# Altium integrated library Lattice FPGA EC.IntLib: 200 symbols (part 6 of 28)
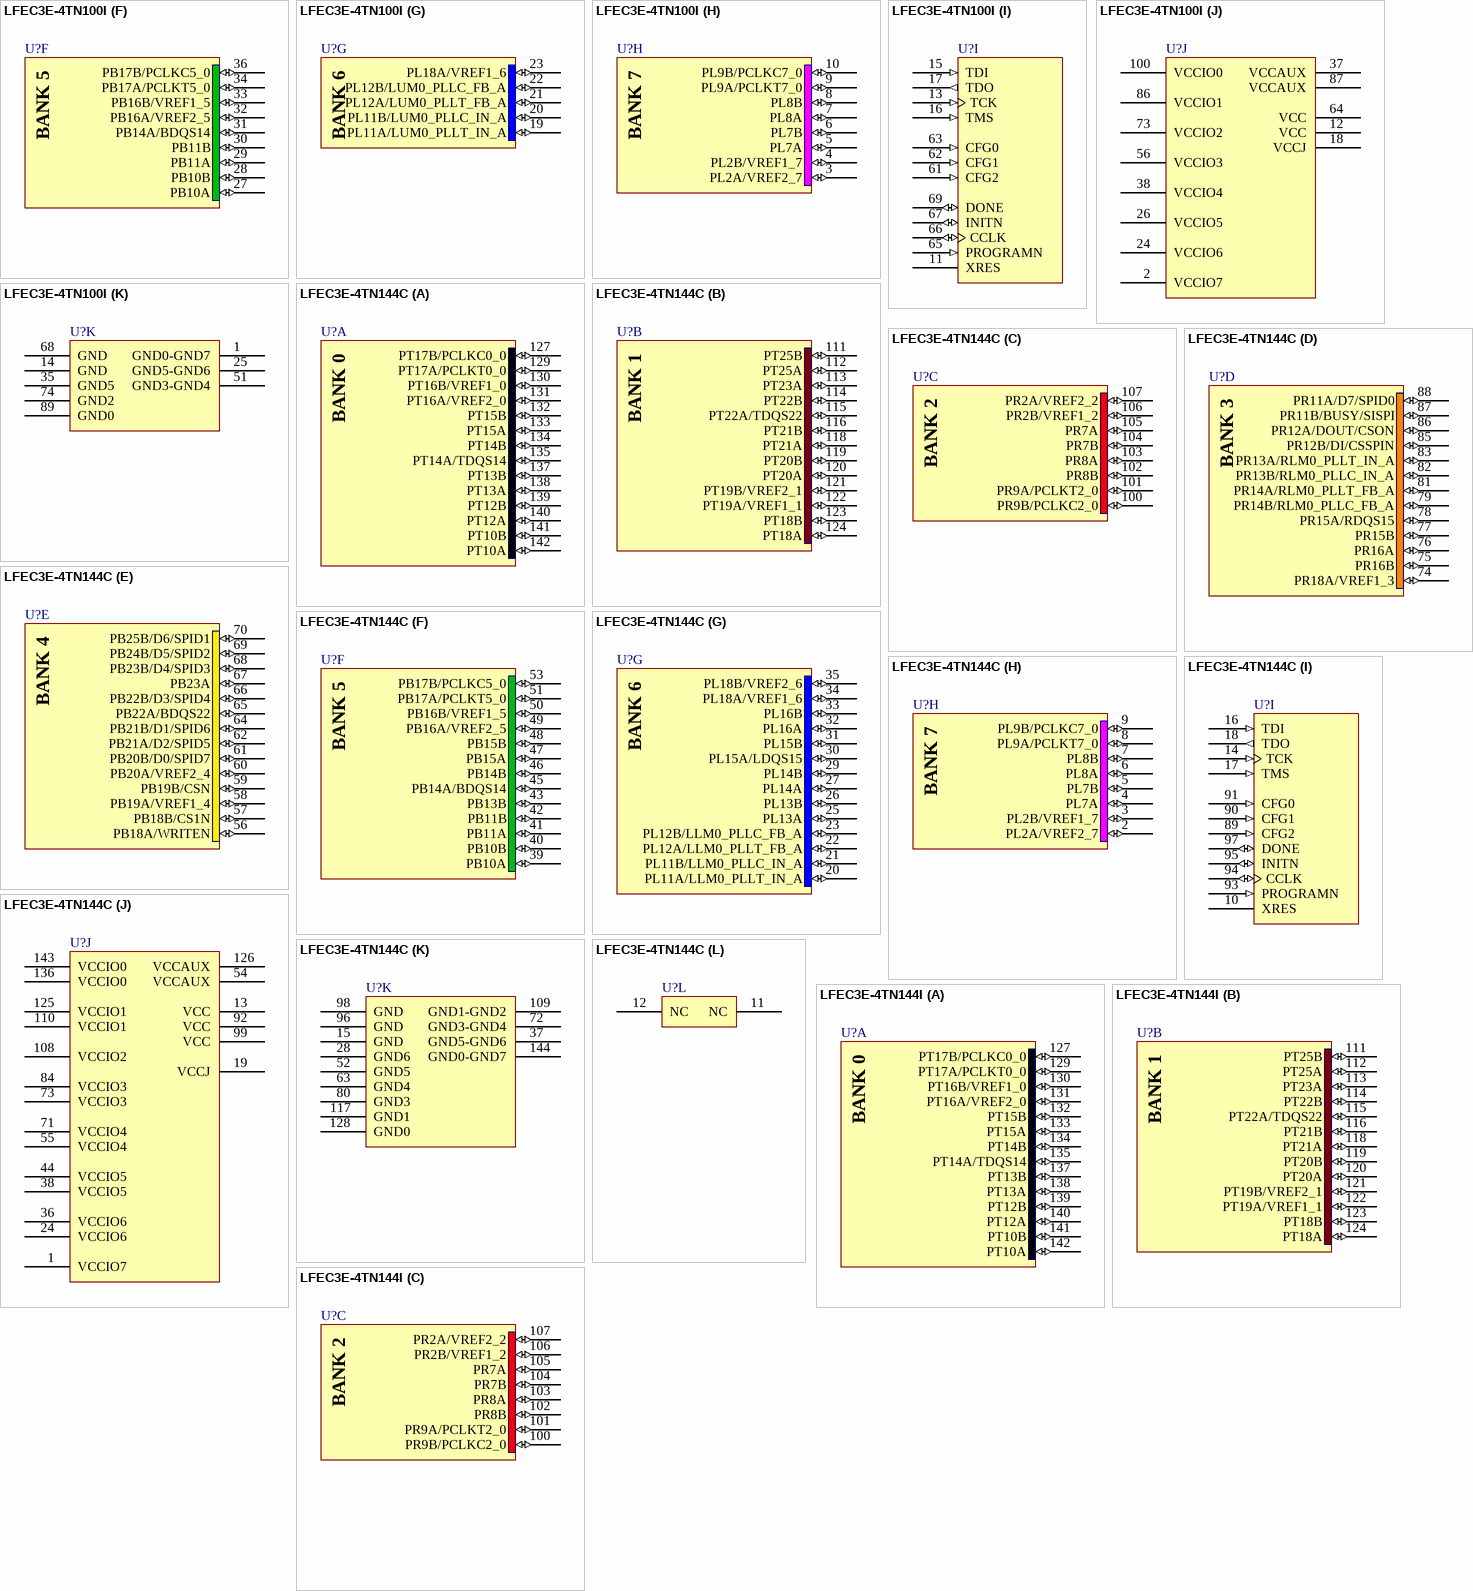
[diagram p235: symbols LFEC3E-4TN100I to LFEC3E-4TN144I]

## LFEC3E-4TN144C
designator U?
EC 1.2V FPGA, 97 I/Os, 2 PLLs, 3.1K LUTs, 144-Pin TQFP, Speed Grade 4, Commercial Grade, Pb-Free; Note: Pins 37, 72, 109 and 144 are double bonded.; DatasheetVersion: ver2.2, Mar-2006; PackageVersion: ver02.8, Jul-2011; PackageReference: TQFP144; PackageDescription: 144-Pin Thin Quad Flat Pack (TQFP144); Code_JEDEC: MS-026-BFB; ComponentLink1Description: Manufacturer URL; ComponentLink1URL: http://www.latticesemi.com/; ComponentLink2Description: Datasheet; ComponentLink2URL: http://www.latticesemi.com/lit/docs/datasheets/fpga/ecp_ec_datasheet.pdf; ComponentLink3Description: Package Specification; ComponentLink3URL: http://www.latticesemi.com/lit/docs/package/pkg.pdf
footprint TQFP144_N (Thin QFP, 144-Leads, Body 20x20mm, Pitch 0.5mm, IPC Medium Density)
footprint TQFP144_L (Thin QFP, 144-Leads, Body 20x20mm, Pitch 0.5mm, IPC High Density)
footprint TQFP144_M (Thin QFP, 144-Leads, Body 20x20mm, Pitch 0.5mm, IPC Low Density)
part A pins: 127 PT17B/PCLKC0_0 (io), 129 PT17A/PCLKT0_0 (io), 130 PT16B/VREF1_0 (io), 131 PT16A/VREF2_0 (io), 132 PT15B (io), 133 PT15A (io), 134 PT14B (io), 135 PT14A/TDQS14 (io), 137 PT13B (io), 138 PT13A (io), 139 PT12B (io), 140 PT12A (io), 141 PT10B (io), 142 PT10A (io)
part B pins: 111 PT25B (io), 112 PT25A (io), 113 PT23A (io), 114 PT22B (io), 115 PT22A/TDQS22 (io), 116 PT21B (io), 118 PT21A (io), 119 PT20B (io), 120 PT20A (io), 121 PT19B/VREF2_1 (io), 122 PT19A/VREF1_1 (io), 123 PT18B (io), 124 PT18A (io)
part C pins: 100 PR9B/PCLKC2_0 (io), 101 PR9A/PCLKT2_0 (io), 102 PR8B (io), 103 PR8A (io), 104 PR7B (io), 105 PR7A (io), 106 PR2B/VREF1_2 (io), 107 PR2A/VREF2_2 (io)
part D pins: 74 PR18A/VREF1_3 (io), 75 PR16B (io), 76 PR16A (io), 77 PR15B (io), 78 PR15A/RDQS15 (io), 79 PR14B/RLM0_PLLC_FB_A (io), 81 PR14A/RLM0_PLLT_FB_A (io), 82 PR13B/RLM0_PLLC_IN_A (io), 83 PR13A/RLM0_PLLT_IN_A (io), 85 PR12B/DI/CSSPIN (io), 86 PR12A/DOUT/CSON (io), 87 PR11B/BUSY/SISPI (io), 88 PR11A/D7/SPID0 (io)
part E pins: 56 PB18A/WRITEN (io), 57 PB18B/CS1N (io), 58 PB19A/VREF1_4 (io), 59 PB19B/CSN (io), 60 PB20A/VREF2_4 (io), 61 PB20B/D0/SPID7 (io), 62 PB21A/D2/SPID5 (io), 64 PB21B/D1/SPID6 (io), 65 PB22A/BDQS22 (io), 66 PB22B/D3/SPID4 (io), 67 PB23A (io), 68 PB23B/D4/SPID3 (io), 69 PB24B/D5/SPID2 (io), 70 PB25B/D6/SPID1 (io)
part F pins: 39 PB10A (io), 40 PB10B (io), 41 PB11A (io), 42 PB11B (io), 43 PB13B (io), 45 PB14A/BDQS14 (io), 46 PB14B (io), 47 PB15A (io), 48 PB15B (io), 49 PB16A/VREF2_5 (io), 50 PB16B/VREF1_5 (io), 51 PB17A/PCLKT5_0 (io), 53 PB17B/PCLKC5_0 (io)
part G pins: 20 PL11A/LLM0_PLLT_IN_A (io), 21 PL11B/LLM0_PLLC_IN_A (io), 22 PL12A/LLM0_PLLT_FB_A (io), 23 PL12B/LLM0_PLLC_FB_A (io), 25 PL13A (io), 26 PL13B (io), 27 PL14A (io), 29 PL14B (io), 30 PL15A/LDQS15 (io), 31 PL15B (io), 32 PL16A (io), 33 PL16B (io), 34 PL18A/VREF1_6 (io), 35 PL18B/VREF2_6 (io)
part H pins: 2 PL2A/VREF2_7 (io), 3 PL2B/VREF1_7 (io), 4 PL7A (io), 5 PL7B (io), 6 PL8A (io), 7 PL8B (io), 8 PL9A/PCLKT7_0 (io), 9 PL9B/PCLKC7_0 (io)
part I pins: 10 XRES, 14 TCK (in), 16 TDI (in), 17 TMS (in), 18 TDO (out), 89 CFG2 (in), 90 CFG1 (in), 91 CFG0 (in), 93 PROGRAMN (in), 94 CCLK (io), 95 INITN (io), 97 DONE (io)
part J pins: 1 VCCIO7 (power), 13 VCC (power), 19 VCCJ (power), 24 VCCIO6 (power), 36 VCCIO6 (power), 38 VCCIO5 (power), 44 VCCIO5 (power), 54 VCCAUX (power), 55 VCCIO4 (power), 71 VCCIO4 (power), 73 VCCIO3 (power), 84 VCCIO3 (power), 92 VCC (power), 99 VCC (power), 108 VCCIO2 (power), 110 VCCIO1 (power), 125 VCCIO1 (power), 126 VCCAUX (power), 136 VCCIO0 (power), 143 VCCIO0 (power)
part K pins: 15 GND (power), 28 GND6 (power), 37 GND5-GND6 (power), 52 GND5 (power), 63 GND4 (power), 72 GND3-GND4 (power), 80 GND3 (power), 96 GND (power), 98 GND (power), 109 GND1-GND2 (power), 117 GND1 (power), 128 GND0 (power), 144 GND0-GND7 (power)
part L pins: 11 NC, 12 NC
part A text: BANK 0
part B text: BANK 1
part C text: BANK 2
part D text: BANK 3
part E text: BANK 4
part F text: BANK 5
part G text: BANK 6
part H text: BANK 7

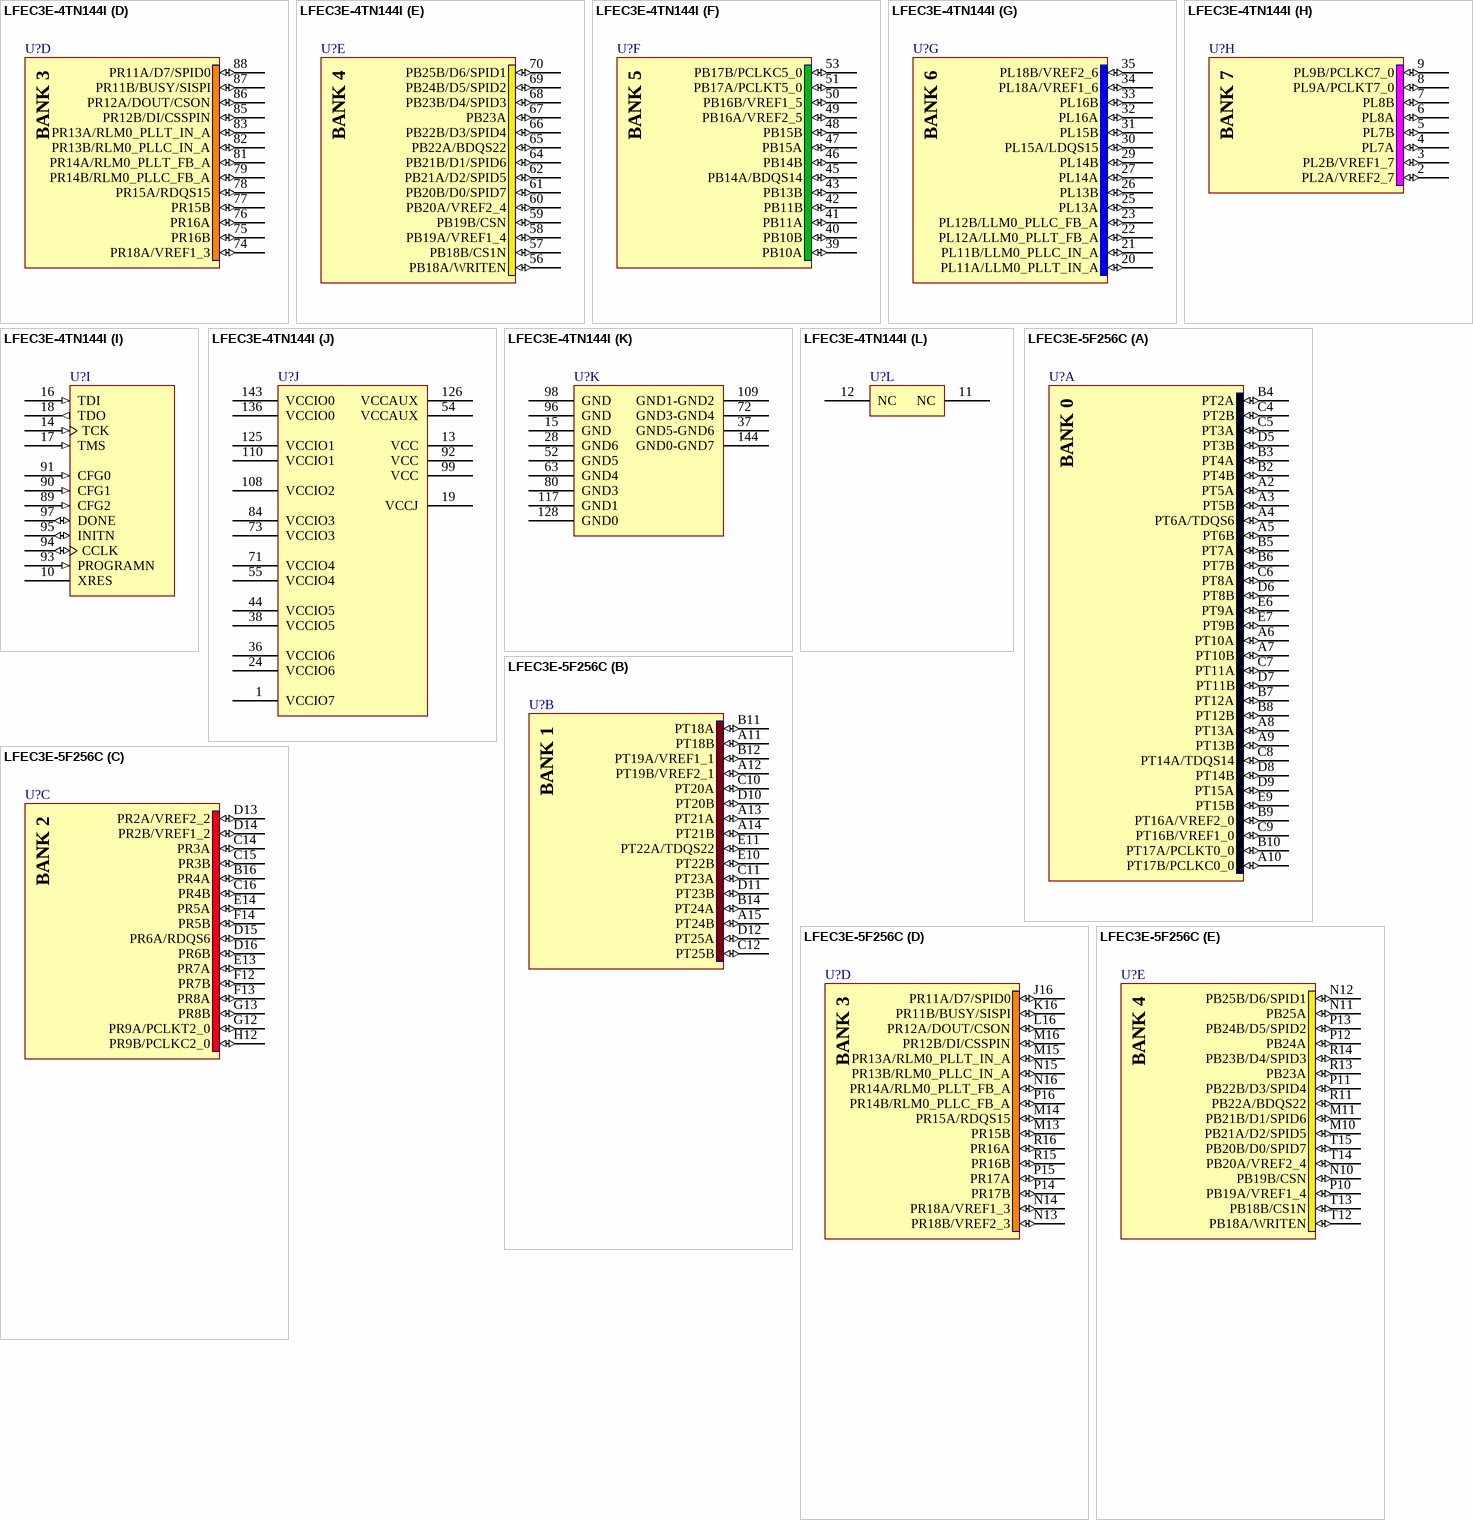
[diagram p41: symbols LFEC3E-4TN144I to LFEC3E-5F256C]

## LFEC3E-4TN144I
designator U?
EC 1.2V FPGA, 97 I/Os, 2 PLLs, 3.1K LUTs, 144-Pin TQFP, Speed Grade 4, Industrial Grade, Pb-Free; Note: Pins 37, 72, 109 and 144 are double bonded.; DatasheetVersion: ver2.2, Mar-2006; PackageVersion: ver02.8, Jul-2011; PackageReference: TQFP144; PackageDescription: 144-Pin Thin Quad Flat Pack (TQFP144); Code_JEDEC: MS-026-BFB; ComponentLink1Description: Manufacturer URL; ComponentLink1URL: http://www.latticesemi.com/; ComponentLink2Description: Datasheet; ComponentLink2URL: http://www.latticesemi.com/lit/docs/datasheets/fpga/ecp_ec_datasheet.pdf; ComponentLink3Description: Package Specification; ComponentLink3URL: http://www.latticesemi.com/lit/docs/package/pkg.pdf
footprint TQFP144_N (Thin QFP, 144-Leads, Body 20x20mm, Pitch 0.5mm, IPC Medium Density)
footprint TQFP144_L (Thin QFP, 144-Leads, Body 20x20mm, Pitch 0.5mm, IPC High Density)
footprint TQFP144_M (Thin QFP, 144-Leads, Body 20x20mm, Pitch 0.5mm, IPC Low Density)
part A pins: 127 PT17B/PCLKC0_0 (io), 129 PT17A/PCLKT0_0 (io), 130 PT16B/VREF1_0 (io), 131 PT16A/VREF2_0 (io), 132 PT15B (io), 133 PT15A (io), 134 PT14B (io), 135 PT14A/TDQS14 (io), 137 PT13B (io), 138 PT13A (io), 139 PT12B (io), 140 PT12A (io), 141 PT10B (io), 142 PT10A (io)
part B pins: 111 PT25B (io), 112 PT25A (io), 113 PT23A (io), 114 PT22B (io), 115 PT22A/TDQS22 (io), 116 PT21B (io), 118 PT21A (io), 119 PT20B (io), 120 PT20A (io), 121 PT19B/VREF2_1 (io), 122 PT19A/VREF1_1 (io), 123 PT18B (io), 124 PT18A (io)
part C pins: 100 PR9B/PCLKC2_0 (io), 101 PR9A/PCLKT2_0 (io), 102 PR8B (io), 103 PR8A (io), 104 PR7B (io), 105 PR7A (io), 106 PR2B/VREF1_2 (io), 107 PR2A/VREF2_2 (io)
part D pins: 74 PR18A/VREF1_3 (io), 75 PR16B (io), 76 PR16A (io), 77 PR15B (io), 78 PR15A/RDQS15 (io), 79 PR14B/RLM0_PLLC_FB_A (io), 81 PR14A/RLM0_PLLT_FB_A (io), 82 PR13B/RLM0_PLLC_IN_A (io), 83 PR13A/RLM0_PLLT_IN_A (io), 85 PR12B/DI/CSSPIN (io), 86 PR12A/DOUT/CSON (io), 87 PR11B/BUSY/SISPI (io), 88 PR11A/D7/SPID0 (io)
part E pins: 56 PB18A/WRITEN (io), 57 PB18B/CS1N (io), 58 PB19A/VREF1_4 (io), 59 PB19B/CSN (io), 60 PB20A/VREF2_4 (io), 61 PB20B/D0/SPID7 (io), 62 PB21A/D2/SPID5 (io), 64 PB21B/D1/SPID6 (io), 65 PB22A/BDQS22 (io), 66 PB22B/D3/SPID4 (io), 67 PB23A (io), 68 PB23B/D4/SPID3 (io), 69 PB24B/D5/SPID2 (io), 70 PB25B/D6/SPID1 (io)
part F pins: 39 PB10A (io), 40 PB10B (io), 41 PB11A (io), 42 PB11B (io), 43 PB13B (io), 45 PB14A/BDQS14 (io), 46 PB14B (io), 47 PB15A (io), 48 PB15B (io), 49 PB16A/VREF2_5 (io), 50 PB16B/VREF1_5 (io), 51 PB17A/PCLKT5_0 (io), 53 PB17B/PCLKC5_0 (io)
part G pins: 20 PL11A/LLM0_PLLT_IN_A (io), 21 PL11B/LLM0_PLLC_IN_A (io), 22 PL12A/LLM0_PLLT_FB_A (io), 23 PL12B/LLM0_PLLC_FB_A (io), 25 PL13A (io), 26 PL13B (io), 27 PL14A (io), 29 PL14B (io), 30 PL15A/LDQS15 (io), 31 PL15B (io), 32 PL16A (io), 33 PL16B (io), 34 PL18A/VREF1_6 (io), 35 PL18B/VREF2_6 (io)
part H pins: 2 PL2A/VREF2_7 (io), 3 PL2B/VREF1_7 (io), 4 PL7A (io), 5 PL7B (io), 6 PL8A (io), 7 PL8B (io), 8 PL9A/PCLKT7_0 (io), 9 PL9B/PCLKC7_0 (io)
part I pins: 10 XRES, 14 TCK (in), 16 TDI (in), 17 TMS (in), 18 TDO (out), 89 CFG2 (in), 90 CFG1 (in), 91 CFG0 (in), 93 PROGRAMN (in), 94 CCLK (io), 95 INITN (io), 97 DONE (io)
part J pins: 1 VCCIO7 (power), 13 VCC (power), 19 VCCJ (power), 24 VCCIO6 (power), 36 VCCIO6 (power), 38 VCCIO5 (power), 44 VCCIO5 (power), 54 VCCAUX (power), 55 VCCIO4 (power), 71 VCCIO4 (power), 73 VCCIO3 (power), 84 VCCIO3 (power), 92 VCC (power), 99 VCC (power), 108 VCCIO2 (power), 110 VCCIO1 (power), 125 VCCIO1 (power), 126 VCCAUX (power), 136 VCCIO0 (power), 143 VCCIO0 (power)
part K pins: 15 GND (power), 28 GND6 (power), 37 GND5-GND6 (power), 52 GND5 (power), 63 GND4 (power), 72 GND3-GND4 (power), 80 GND3 (power), 96 GND (power), 98 GND (power), 109 GND1-GND2 (power), 117 GND1 (power), 128 GND0 (power), 144 GND0-GND7 (power)
part L pins: 11 NC, 12 NC
part A text: BANK 0
part B text: BANK 1
part C text: BANK 2
part D text: BANK 3
part E text: BANK 4
part F text: BANK 5
part G text: BANK 6
part H text: BANK 7

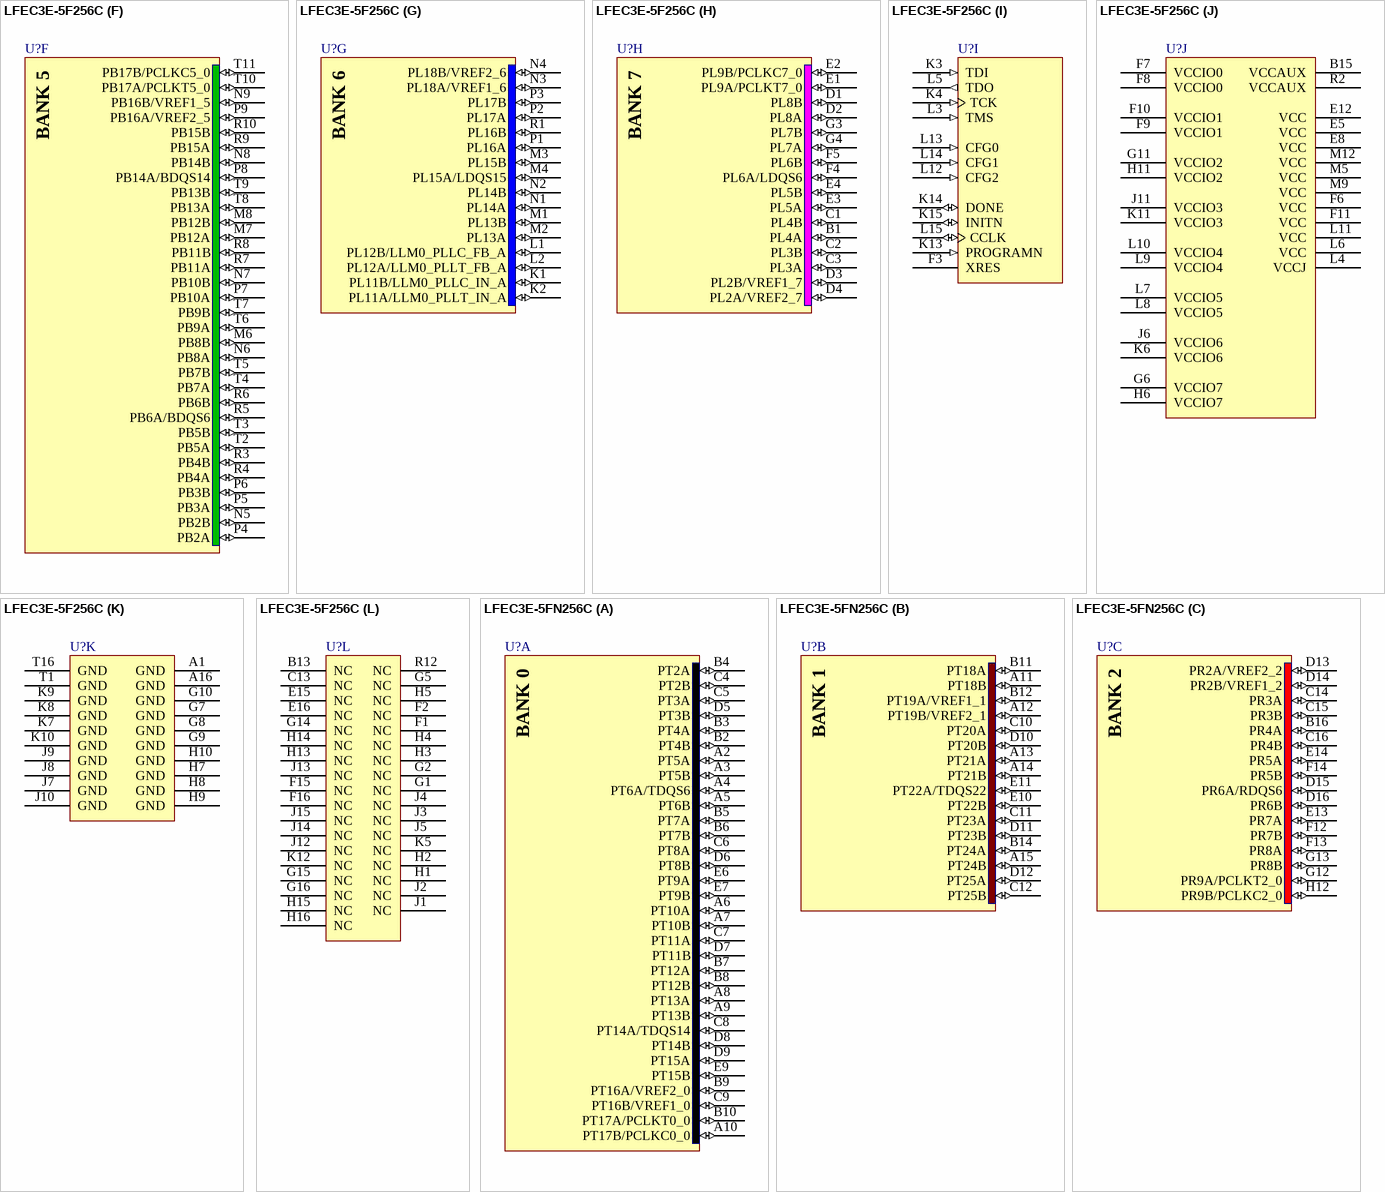
[diagram p42: symbols LFEC3E-5F256C to LFEC3E-5FN256C]

## LFEC3E-5F256C
designator U?
EC 1.2V FPGA, 160 I/Os, 2 PLLs, 3.1K LUTs, 256-Pin fpBGA, Speed Grade 5, Commercial Grade; DatasheetVersion: ver2.2, Mar-2006; PackageVersion: ver01.8, Dec-2008; PackageReference: fpBGA256; PackageDescription: 256-Ball Fine Pitch Ball Grid Array (fpBGA256); Code_IPC: BGA100P16X16-256; ComponentLink1Description: Manufacturer URL; ComponentLink1URL: http://www.latticesemi.com/; ComponentLink2Description: Datasheet; ComponentLink2URL: http://www.latticesemi.com/lit/docs/datasheets/fpga/ecp_ec_datasheet.pdf; ComponentLink3Description: Package Specification; ComponentLink3URL: http://www.latticesemi.com/lit/docs/package/pkg.pdf
footprint fpBGA256 (BGA, 256-Leads, Body 17x17mm, Pitch 1mm)
part A pins: A2 PT5A (io), A3 PT5B (io), A4 PT6A/TDQS6 (io), A5 PT6B (io), A6 PT10A (io), A7 PT10B (io), A8 PT13A (io), A9 PT13B (io), A10 PT17B/PCLKC0_0 (io), B2 PT4B (io), B3 PT4A (io), B4 PT2A (io), B5 PT7A (io), B6 PT7B (io), B7 PT12A (io), B8 PT12B (io), B9 PT16A/VREF2_0 (io), B10 PT17A/PCLKT0_0 (io), C4 PT2B (io), C5 PT3A (io), C6 PT8A (io), C7 PT11A (io), C8 PT14A/TDQS14 (io), C9 PT16B/VREF1_0 (io), D5 PT3B (io), D6 PT8B (io), D7 PT11B (io), D8 PT14B (io), D9 PT15A (io), E6 PT9A (io), E7 PT9B (io), E9 PT15B (io)
part B pins: A11 PT18B (io), A12 PT19B/VREF2_1 (io), A13 PT21A (io), A14 PT21B (io), A15 PT24B (io), B11 PT18A (io), B12 PT19A/VREF1_1 (io), B14 PT24A (io), C10 PT20A (io), C11 PT23A (io), C12 PT25B (io), D10 PT20B (io), D11 PT23B (io), D12 PT25A (io), E10 PT22B (io), E11 PT22A/TDQS22 (io)
part C pins: B16 PR4A (io), C14 PR3A (io), C15 PR3B (io), C16 PR4B (io), D13 PR2A/VREF2_2 (io), D14 PR2B/VREF1_2 (io), D15 PR6A/RDQS6 (io), D16 PR6B (io), E13 PR7A (io), E14 PR5A (io), F12 PR7B (io), F13 PR8A (io), F14 PR5B (io), G12 PR9A/PCLKT2_0 (io), G13 PR8B (io), H12 PR9B/PCLKC2_0 (io)
part D pins: J16 PR11A/D7/SPID0 (io), K16 PR11B/BUSY/SISPI (io), L16 PR12A/DOUT/CSON (io), M13 PR15B (io), M14 PR15A/RDQS15 (io), M15 PR13A/RLM0_PLLT_IN_A (io), M16 PR12B/DI/CSSPIN (io), N13 PR18B/VREF2_3 (io), N14 PR18A/VREF1_3 (io), N15 PR13B/RLM0_PLLC_IN_A (io), N16 PR14A/RLM0_PLLT_FB_A (io), P14 PR17B (io), P15 PR17A (io), P16 PR14B/RLM0_PLLC_FB_A (io), R15 PR16B (io), R16 PR16A (io)
part E pins: M10 PB21A/D2/SPID5 (io), M11 PB21B/D1/SPID6 (io), N10 PB19B/CSN (io), N11 PB25A (io), N12 PB25B/D6/SPID1 (io), P10 PB19A/VREF1_4 (io), P11 PB22B/D3/SPID4 (io), P12 PB24A (io), P13 PB24B/D5/SPID2 (io), R11 PB22A/BDQS22 (io), R13 PB23A (io), R14 PB23B/D4/SPID3 (io), T12 PB18A/WRITEN (io), T13 PB18B/CS1N (io), T14 PB20A/VREF2_4 (io), T15 PB20B/D0/SPID7 (io)
part F pins: M6 PB8B (io), M7 PB12A (io), M8 PB12B (io), N5 PB2B (io), N6 PB8A (io), N7 PB10B (io), N8 PB14B (io), N9 PB16B/VREF1_5 (io), P4 PB2A (io), P5 PB3A (io), P6 PB3B (io), P7 PB10A (io), P8 PB14A/BDQS14 (io), P9 PB16A/VREF2_5 (io), R3 PB4B (io), R4 PB4A (io), R5 PB6A/BDQS6 (io), R6 PB6B (io), R7 PB11A (io), R8 PB11B (io), R9 PB15A (io), R10 PB15B (io), T2 PB5A (io), T3 PB5B (io), T4 PB7A (io), T5 PB7B (io), T6 PB9A (io), T7 PB9B (io), T8 PB13A (io), T9 PB13B (io), T10 PB17A/PCLKT5_0 (io), T11 PB17B/PCLKC5_0 (io)
part G pins: K1 PL11B/LLM0_PLLC_IN_A (io), K2 PL11A/LLM0_PLLT_IN_A (io), L1 PL12B/LLM0_PLLC_FB_A (io), L2 PL12A/LLM0_PLLT_FB_A (io), M1 PL13B (io), M2 PL13A (io), M3 PL15B (io), M4 PL15A/LDQS15 (io), N1 PL14A (io), N2 PL14B (io), N3 PL18A/VREF1_6 (io), N4 PL18B/VREF2_6 (io), P1 PL16A (io), P2 PL17A (io), P3 PL17B (io), R1 PL16B (io)
part H pins: B1 PL4A (io), C1 PL4B (io), C2 PL3B (io), C3 PL3A (io), D1 PL8B (io), D2 PL8A (io), D3 PL2B/VREF1_7 (io), D4 PL2A/VREF2_7 (io), E1 PL9A/PCLKT7_0 (io), E2 PL9B/PCLKC7_0 (io), E3 PL5A (io), E4 PL5B (io), F4 PL6A/LDQS6 (io), F5 PL6B (io), G3 PL7B (io), G4 PL7A (io)
part I pins: F3 XRES, K3 TDI (in), K4 TCK (in), K13 PROGRAMN (in), K14 DONE (io), K15 INITN (io), L3 TMS (in), L5 TDO (out), L12 CFG2 (in), L13 CFG0 (in), L14 CFG1 (in), L15 CCLK (io)
part J pins: B15 VCCAUX (power), E5 VCC (power), E8 VCC (power), E12 VCC (power), F6 VCC (power), F7 VCCIO0 (power), F8 VCCIO0 (power), F9 VCCIO1 (power), F10 VCCIO1 (power), F11 VCC (power), G6 VCCIO7 (power), G11 VCCIO2 (power), H6 VCCIO7 (power), H11 VCCIO2 (power), J6 VCCIO6 (power), J11 VCCIO3 (power), K6 VCCIO6 (power), K11 VCCIO3 (power), L4 VCCJ (power), L6 VCC (power), L7 VCCIO5 (power), L8 VCCIO5 (power), L9 VCCIO4 (power), L10 VCCIO4 (power), L11 VCC (power), M5 VCC (power), M9 VCC (power), M12 VCC (power), R2 VCCAUX (power)
part K pins: A1 GND (power), A16 GND (power), G7 GND (power), G8 GND (power), G9 GND (power), G10 GND (power), H7 GND (power), H8 GND (power), H9 GND (power), H10 GND (power), J7 GND (power), J8 GND (power), J9 GND (power), J10 GND (power), K7 GND (power), K8 GND (power), K9 GND (power), K10 GND (power), T1 GND (power), T16 GND (power)
part L pins: B13 NC, C13 NC, E15 NC, E16 NC, F1 NC, F2 NC, F15 NC, F16 NC, G1 NC, G2 NC, G5 NC, G14 NC, G15 NC, G16 NC, H1 NC, H2 NC, H3 NC, H4 NC, H5 NC, H13 NC, H14 NC, H15 NC, H16 NC, J1 NC, J2 NC, J3 NC, J4 NC, J5 NC, J12 NC, J13 NC, J14 NC, J15 NC, K5 NC, K12 NC, R12 NC
part A text: BANK 0
part B text: BANK 1
part C text: BANK 2
part D text: BANK 3
part E text: BANK 4
part F text: BANK 5
part G text: BANK 6
part H text: BANK 7

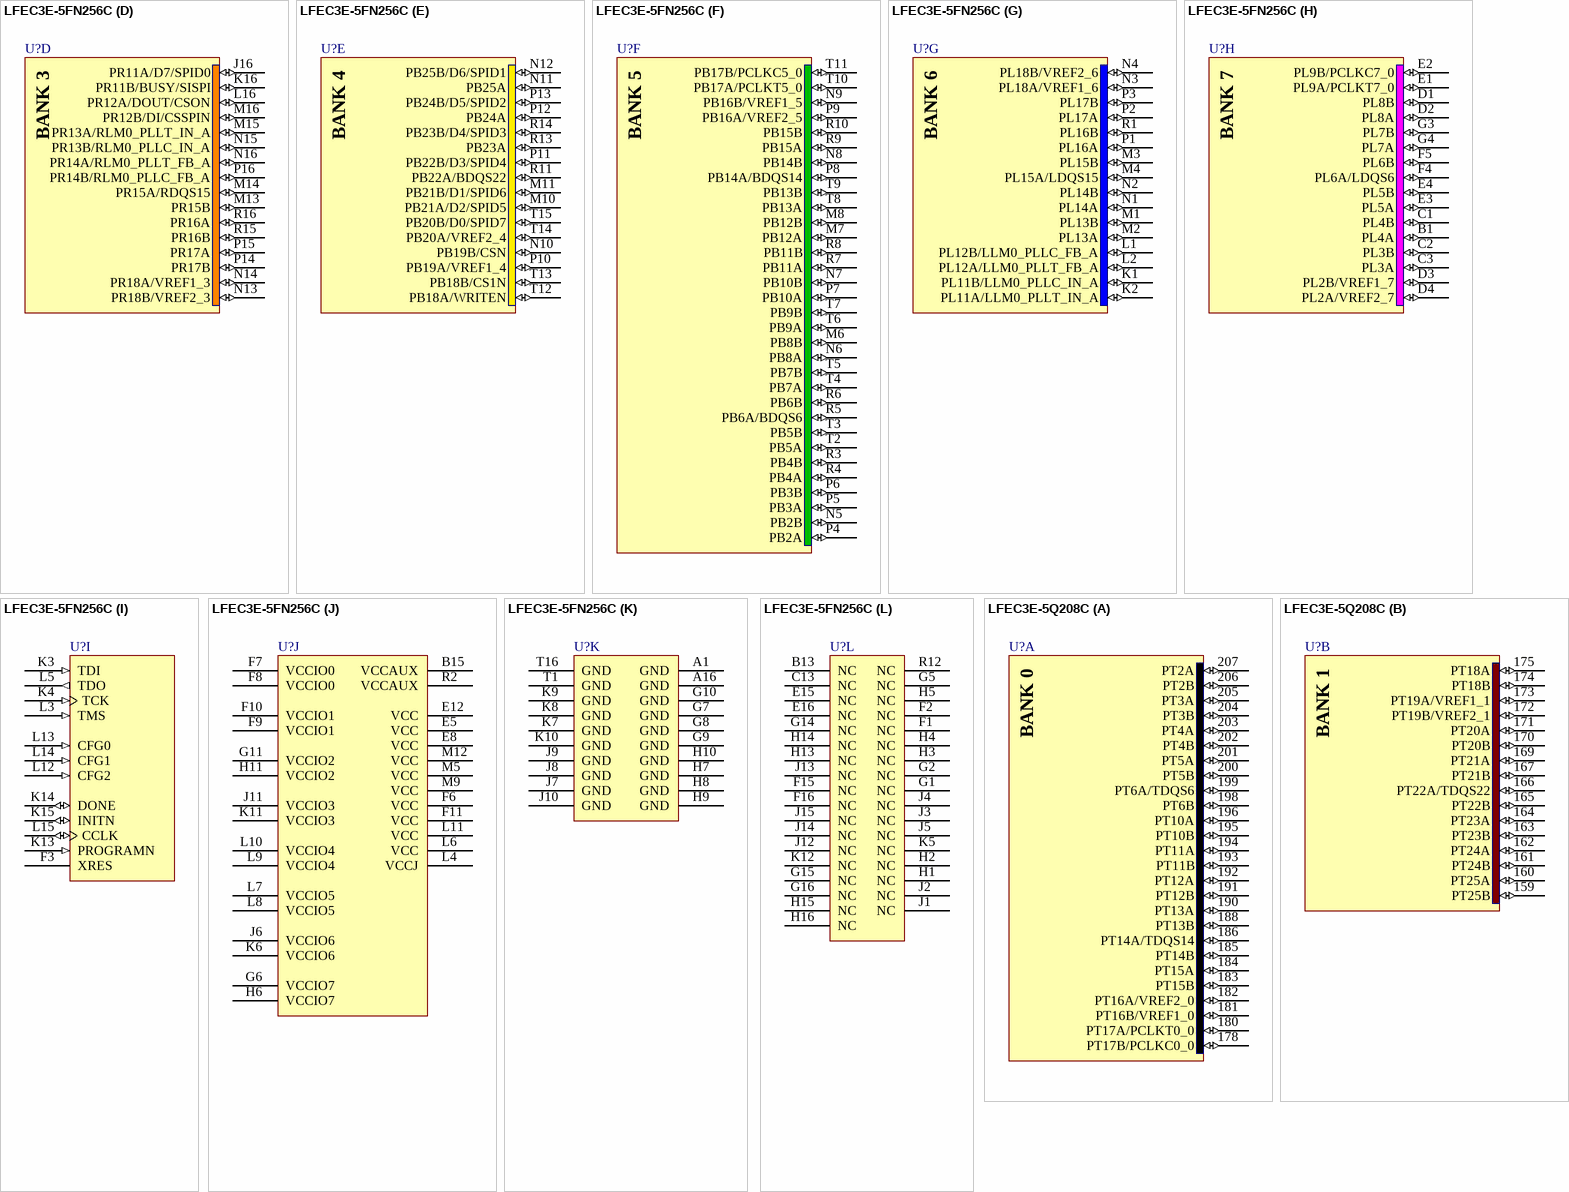
[diagram p43: symbols LFEC3E-5FN256C to LFEC3E-5Q208C]

## LFEC3E-5FN256C
designator U?
EC 1.2V FPGA, 160 I/Os, 2 PLLs, 3.1K LUTs, 256-Pin fpBGA, Speed Grade 5, Commercial Grade, Pb-Free; DatasheetVersion: ver2.2, Mar-2006; PackageVersion: ver01.8, Dec-2008; PackageReference: fpBGA256; PackageDescription: 256-Ball Fine Pitch Ball Grid Array (fpBGA256); Code_IPC: BGA100P16X16-256; ComponentLink1Description: Manufacturer URL; ComponentLink1URL: http://www.latticesemi.com/; ComponentLink2Description: Datasheet; ComponentLink2URL: http://www.latticesemi.com/lit/docs/datasheets/fpga/ecp_ec_datasheet.pdf; ComponentLink3Description: Package Specification; ComponentLink3URL: http://www.latticesemi.com/lit/docs/package/pkg.pdf
footprint fpBGA256 (BGA, 256-Leads, Body 17x17mm, Pitch 1mm)
part A pins: A2 PT5A (io), A3 PT5B (io), A4 PT6A/TDQS6 (io), A5 PT6B (io), A6 PT10A (io), A7 PT10B (io), A8 PT13A (io), A9 PT13B (io), A10 PT17B/PCLKC0_0 (io), B2 PT4B (io), B3 PT4A (io), B4 PT2A (io), B5 PT7A (io), B6 PT7B (io), B7 PT12A (io), B8 PT12B (io), B9 PT16A/VREF2_0 (io), B10 PT17A/PCLKT0_0 (io), C4 PT2B (io), C5 PT3A (io), C6 PT8A (io), C7 PT11A (io), C8 PT14A/TDQS14 (io), C9 PT16B/VREF1_0 (io), D5 PT3B (io), D6 PT8B (io), D7 PT11B (io), D8 PT14B (io), D9 PT15A (io), E6 PT9A (io), E7 PT9B (io), E9 PT15B (io)
part B pins: A11 PT18B (io), A12 PT19B/VREF2_1 (io), A13 PT21A (io), A14 PT21B (io), A15 PT24B (io), B11 PT18A (io), B12 PT19A/VREF1_1 (io), B14 PT24A (io), C10 PT20A (io), C11 PT23A (io), C12 PT25B (io), D10 PT20B (io), D11 PT23B (io), D12 PT25A (io), E10 PT22B (io), E11 PT22A/TDQS22 (io)
part C pins: B16 PR4A (io), C14 PR3A (io), C15 PR3B (io), C16 PR4B (io), D13 PR2A/VREF2_2 (io), D14 PR2B/VREF1_2 (io), D15 PR6A/RDQS6 (io), D16 PR6B (io), E13 PR7A (io), E14 PR5A (io), F12 PR7B (io), F13 PR8A (io), F14 PR5B (io), G12 PR9A/PCLKT2_0 (io), G13 PR8B (io), H12 PR9B/PCLKC2_0 (io)
part D pins: J16 PR11A/D7/SPID0 (io), K16 PR11B/BUSY/SISPI (io), L16 PR12A/DOUT/CSON (io), M13 PR15B (io), M14 PR15A/RDQS15 (io), M15 PR13A/RLM0_PLLT_IN_A (io), M16 PR12B/DI/CSSPIN (io), N13 PR18B/VREF2_3 (io), N14 PR18A/VREF1_3 (io), N15 PR13B/RLM0_PLLC_IN_A (io), N16 PR14A/RLM0_PLLT_FB_A (io), P14 PR17B (io), P15 PR17A (io), P16 PR14B/RLM0_PLLC_FB_A (io), R15 PR16B (io), R16 PR16A (io)
part E pins: M10 PB21A/D2/SPID5 (io), M11 PB21B/D1/SPID6 (io), N10 PB19B/CSN (io), N11 PB25A (io), N12 PB25B/D6/SPID1 (io), P10 PB19A/VREF1_4 (io), P11 PB22B/D3/SPID4 (io), P12 PB24A (io), P13 PB24B/D5/SPID2 (io), R11 PB22A/BDQS22 (io), R13 PB23A (io), R14 PB23B/D4/SPID3 (io), T12 PB18A/WRITEN (io), T13 PB18B/CS1N (io), T14 PB20A/VREF2_4 (io), T15 PB20B/D0/SPID7 (io)
part F pins: M6 PB8B (io), M7 PB12A (io), M8 PB12B (io), N5 PB2B (io), N6 PB8A (io), N7 PB10B (io), N8 PB14B (io), N9 PB16B/VREF1_5 (io), P4 PB2A (io), P5 PB3A (io), P6 PB3B (io), P7 PB10A (io), P8 PB14A/BDQS14 (io), P9 PB16A/VREF2_5 (io), R3 PB4B (io), R4 PB4A (io), R5 PB6A/BDQS6 (io), R6 PB6B (io), R7 PB11A (io), R8 PB11B (io), R9 PB15A (io), R10 PB15B (io), T2 PB5A (io), T3 PB5B (io), T4 PB7A (io), T5 PB7B (io), T6 PB9A (io), T7 PB9B (io), T8 PB13A (io), T9 PB13B (io), T10 PB17A/PCLKT5_0 (io), T11 PB17B/PCLKC5_0 (io)
part G pins: K1 PL11B/LLM0_PLLC_IN_A (io), K2 PL11A/LLM0_PLLT_IN_A (io), L1 PL12B/LLM0_PLLC_FB_A (io), L2 PL12A/LLM0_PLLT_FB_A (io), M1 PL13B (io), M2 PL13A (io), M3 PL15B (io), M4 PL15A/LDQS15 (io), N1 PL14A (io), N2 PL14B (io), N3 PL18A/VREF1_6 (io), N4 PL18B/VREF2_6 (io), P1 PL16A (io), P2 PL17A (io), P3 PL17B (io), R1 PL16B (io)
part H pins: B1 PL4A (io), C1 PL4B (io), C2 PL3B (io), C3 PL3A (io), D1 PL8B (io), D2 PL8A (io), D3 PL2B/VREF1_7 (io), D4 PL2A/VREF2_7 (io), E1 PL9A/PCLKT7_0 (io), E2 PL9B/PCLKC7_0 (io), E3 PL5A (io), E4 PL5B (io), F4 PL6A/LDQS6 (io), F5 PL6B (io), G3 PL7B (io), G4 PL7A (io)
part I pins: F3 XRES, K3 TDI (in), K4 TCK (in), K13 PROGRAMN (in), K14 DONE (io), K15 INITN (io), L3 TMS (in), L5 TDO (out), L12 CFG2 (in), L13 CFG0 (in), L14 CFG1 (in), L15 CCLK (io)
part J pins: B15 VCCAUX (power), E5 VCC (power), E8 VCC (power), E12 VCC (power), F6 VCC (power), F7 VCCIO0 (power), F8 VCCIO0 (power), F9 VCCIO1 (power), F10 VCCIO1 (power), F11 VCC (power), G6 VCCIO7 (power), G11 VCCIO2 (power), H6 VCCIO7 (power), H11 VCCIO2 (power), J6 VCCIO6 (power), J11 VCCIO3 (power), K6 VCCIO6 (power), K11 VCCIO3 (power), L4 VCCJ (power), L6 VCC (power), L7 VCCIO5 (power), L8 VCCIO5 (power), L9 VCCIO4 (power), L10 VCCIO4 (power), L11 VCC (power), M5 VCC (power), M9 VCC (power), M12 VCC (power), R2 VCCAUX (power)
part K pins: A1 GND (power), A16 GND (power), G7 GND (power), G8 GND (power), G9 GND (power), G10 GND (power), H7 GND (power), H8 GND (power), H9 GND (power), H10 GND (power), J7 GND (power), J8 GND (power), J9 GND (power), J10 GND (power), K7 GND (power), K8 GND (power), K9 GND (power), K10 GND (power), T1 GND (power), T16 GND (power)
part L pins: B13 NC, C13 NC, E15 NC, E16 NC, F1 NC, F2 NC, F15 NC, F16 NC, G1 NC, G2 NC, G5 NC, G14 NC, G15 NC, G16 NC, H1 NC, H2 NC, H3 NC, H4 NC, H5 NC, H13 NC, H14 NC, H15 NC, H16 NC, J1 NC, J2 NC, J3 NC, J4 NC, J5 NC, J12 NC, J13 NC, J14 NC, J15 NC, K5 NC, K12 NC, R12 NC
part A text: BANK 0
part B text: BANK 1
part C text: BANK 2
part D text: BANK 3
part E text: BANK 4
part F text: BANK 5
part G text: BANK 6
part H text: BANK 7

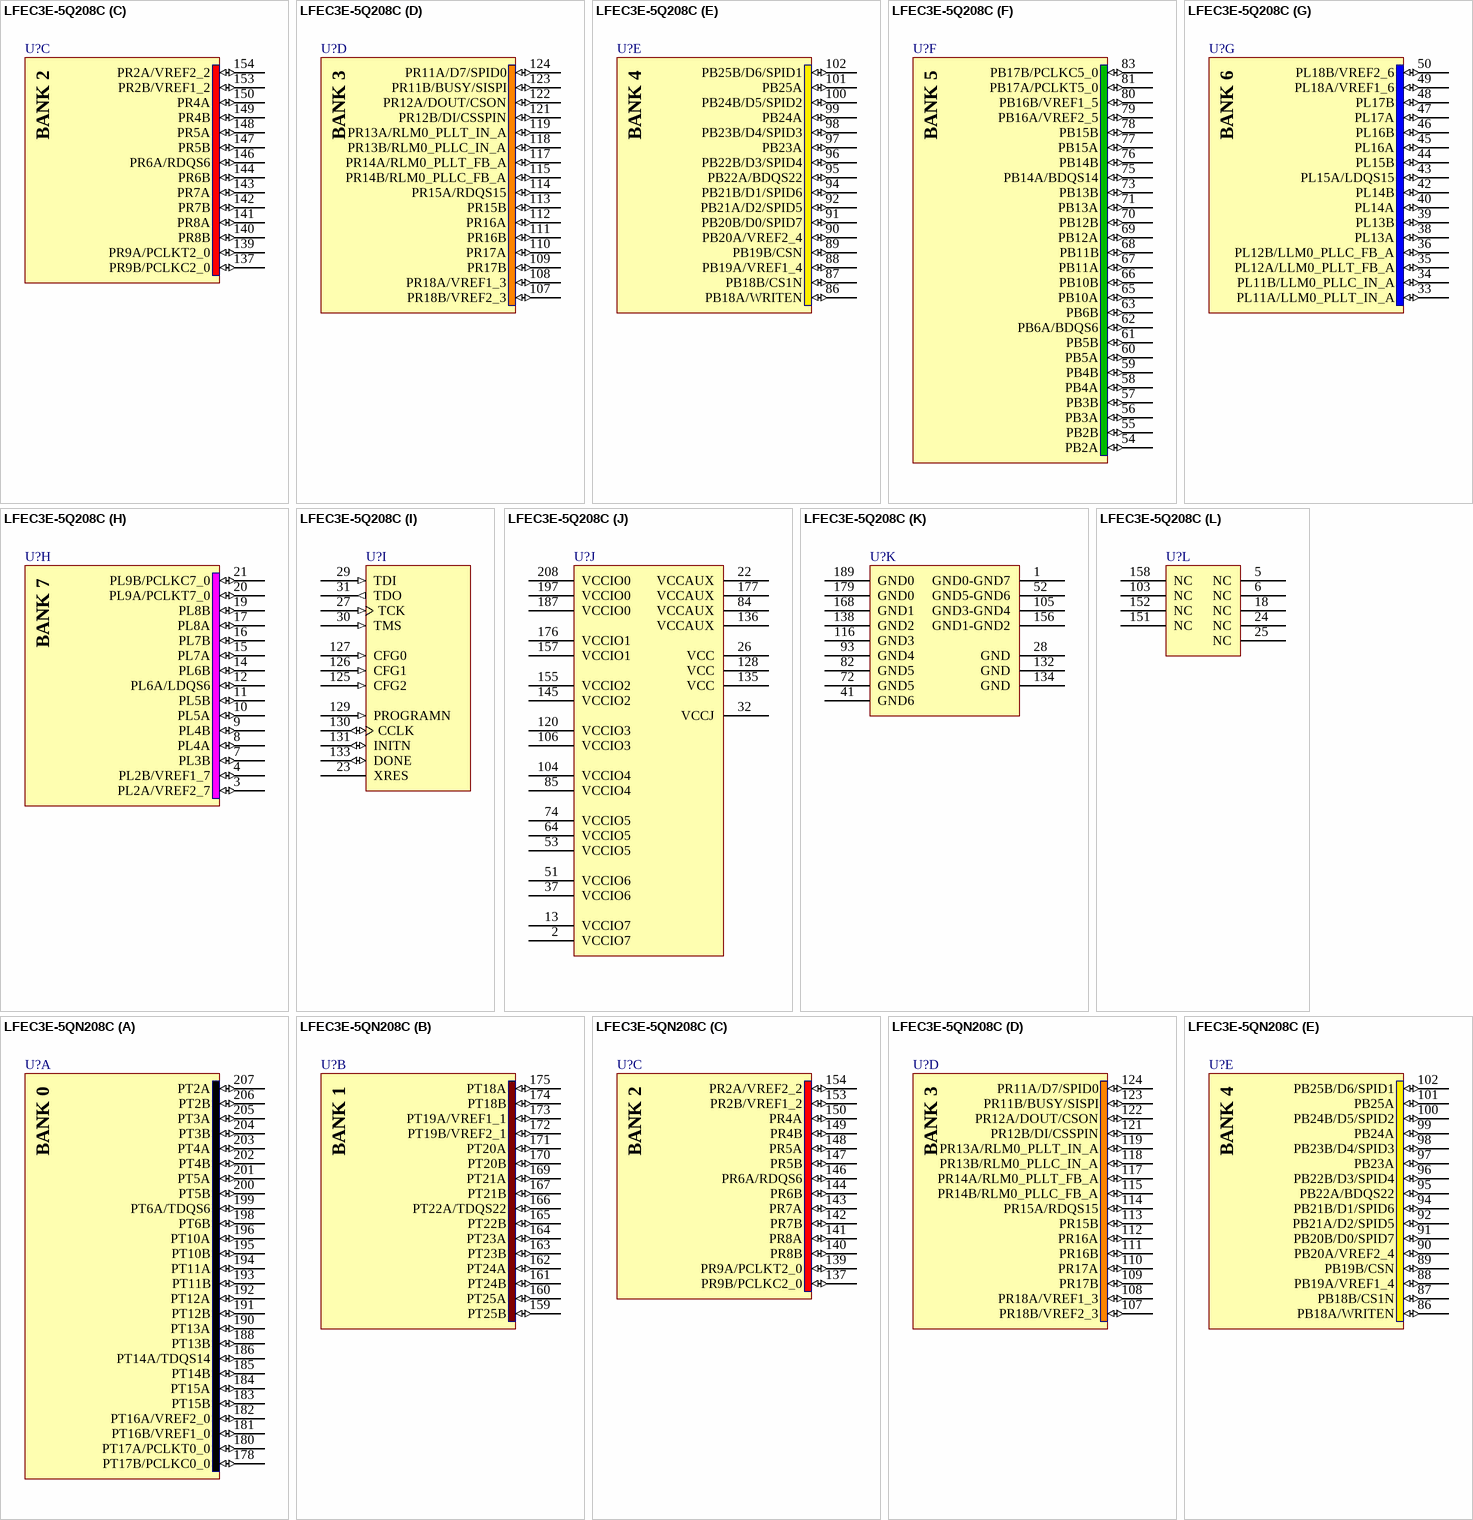
[diagram p44: symbols LFEC3E-5Q208C to LFEC3E-5QN208C]

## LFEC3E-5Q208C
designator U?
EC 1.2V FPGA, 145 I/Os, 2 PLLs, 3.1K LUTs, 208-Pin PQFP, Speed Grade 5, Commercial Grade; Note: Pins 1, 52, 105 and 156 are double bonded.; DatasheetVersion: ver2.2, Mar-2006; PackageVersion: ver01.8, Dec-2008; PackageReference: PQFP208; PackageDescription: 208-Pin Plastic Quad Flat Pack (PQFP208); Code_JEDEC: MO-143-FAI; ComponentLink1Description: Manufacturer URL; ComponentLink1URL: http://www.latticesemi.com/; ComponentLink2Description: Datasheet; ComponentLink2URL: http://www.latticesemi.com/lit/docs/datasheets/fpga/ecp_ec_datasheet.pdf; ComponentLink3Description: Package Specification; ComponentLink3URL: http://www.latticesemi.com/lit/docs/package/pkg.pdf
footprint PQFP208_N (Shrink QFP, 208-Leads, Body 28x28mm, Pitch 0.5mm, IPC Medium Density)
footprint PQFP208_L (Shrink QFP, 208-Leads, Body 28x28mm, Pitch 0.5mm, IPC High Density)
footprint PQFP208_M (Shrink QFP, 208-Leads, Body 28x28mm, Pitch 0.5mm, IPC Low Density)
part A pins: 178 PT17B/PCLKC0_0 (io), 180 PT17A/PCLKT0_0 (io), 181 PT16B/VREF1_0 (io), 182 PT16A/VREF2_0 (io), 183 PT15B (io), 184 PT15A (io), 185 PT14B (io), 186 PT14A/TDQS14 (io), 188 PT13B (io), 190 PT13A (io), 191 PT12B (io), 192 PT12A (io), 193 PT11B (io), 194 PT11A (io), 195 PT10B (io), 196 PT10A (io), 198 PT6B (io), 199 PT6A/TDQS6 (io), 200 PT5B (io), 201 PT5A (io), 202 PT4B (io), 203 PT4A (io), 204 PT3B (io), 205 PT3A (io), 206 PT2B (io), 207 PT2A (io)
part B pins: 159 PT25B (io), 160 PT25A (io), 161 PT24B (io), 162 PT24A (io), 163 PT23B (io), 164 PT23A (io), 165 PT22B (io), 166 PT22A/TDQS22 (io), 167 PT21B (io), 169 PT21A (io), 170 PT20B (io), 171 PT20A (io), 172 PT19B/VREF2_1 (io), 173 PT19A/VREF1_1 (io), 174 PT18B (io), 175 PT18A (io)
part C pins: 137 PR9B/PCLKC2_0 (io), 139 PR9A/PCLKT2_0 (io), 140 PR8B (io), 141 PR8A (io), 142 PR7B (io), 143 PR7A (io), 144 PR6B (io), 146 PR6A/RDQS6 (io), 147 PR5B (io), 148 PR5A (io), 149 PR4B (io), 150 PR4A (io), 153 PR2B/VREF1_2 (io), 154 PR2A/VREF2_2 (io)
part D pins: 107 PR18B/VREF2_3 (io), 108 PR18A/VREF1_3 (io), 109 PR17B (io), 110 PR17A (io), 111 PR16B (io), 112 PR16A (io), 113 PR15B (io), 114 PR15A/RDQS15 (io), 115 PR14B/RLM0_PLLC_FB_A (io), 117 PR14A/RLM0_PLLT_FB_A (io), 118 PR13B/RLM0_PLLC_IN_A (io), 119 PR13A/RLM0_PLLT_IN_A (io), 121 PR12B/DI/CSSPIN (io), 122 PR12A/DOUT/CSON (io), 123 PR11B/BUSY/SISPI (io), 124 PR11A/D7/SPID0 (io)
part E pins: 86 PB18A/WRITEN (io), 87 PB18B/CS1N (io), 88 PB19A/VREF1_4 (io), 89 PB19B/CSN (io), 90 PB20A/VREF2_4 (io), 91 PB20B/D0/SPID7 (io), 92 PB21A/D2/SPID5 (io), 94 PB21B/D1/SPID6 (io), 95 PB22A/BDQS22 (io), 96 PB22B/D3/SPID4 (io), 97 PB23A (io), 98 PB23B/D4/SPID3 (io), 99 PB24A (io), 100 PB24B/D5/SPID2 (io), 101 PB25A (io), 102 PB25B/D6/SPID1 (io)
part F pins: 54 PB2A (io), 55 PB2B (io), 56 PB3A (io), 57 PB3B (io), 58 PB4A (io), 59 PB4B (io), 60 PB5A (io), 61 PB5B (io), 62 PB6A/BDQS6 (io), 63 PB6B (io), 65 PB10A (io), 66 PB10B (io), 67 PB11A (io), 68 PB11B (io), 69 PB12A (io), 70 PB12B (io), 71 PB13A (io), 73 PB13B (io), 75 PB14A/BDQS14 (io), 76 PB14B (io), 77 PB15A (io), 78 PB15B (io), 79 PB16A/VREF2_5 (io), 80 PB16B/VREF1_5 (io), 81 PB17A/PCLKT5_0 (io), 83 PB17B/PCLKC5_0 (io)
part G pins: 33 PL11A/LLM0_PLLT_IN_A (io), 34 PL11B/LLM0_PLLC_IN_A (io), 35 PL12A/LLM0_PLLT_FB_A (io), 36 PL12B/LLM0_PLLC_FB_A (io), 38 PL13A (io), 39 PL13B (io), 40 PL14A (io), 42 PL14B (io), 43 PL15A/LDQS15 (io), 44 PL15B (io), 45 PL16A (io), 46 PL16B (io), 47 PL17A (io), 48 PL17B (io), 49 PL18A/VREF1_6 (io), 50 PL18B/VREF2_6 (io)
part H pins: 3 PL2A/VREF2_7 (io), 4 PL2B/VREF1_7 (io), 7 PL3B (io), 8 PL4A (io), 9 PL4B (io), 10 PL5A (io), 11 PL5B (io), 12 PL6A/LDQS6 (io), 14 PL6B (io), 15 PL7A (io), 16 PL7B (io), 17 PL8A (io), 19 PL8B (io), 20 PL9A/PCLKT7_0 (io), 21 PL9B/PCLKC7_0 (io)
part I pins: 23 XRES, 27 TCK (in), 29 TDI (in), 30 TMS (in), 31 TDO (out), 125 CFG2 (in), 126 CFG1 (in), 127 CFG0 (in), 129 PROGRAMN (in), 130 CCLK (io), 131 INITN (io), 133 DONE (io)
part J pins: 2 VCCIO7 (power), 13 VCCIO7 (power), 22 VCCAUX (power), 26 VCC (power), 32 VCCJ (power), 37 VCCIO6 (power), 51 VCCIO6 (power), 53 VCCIO5 (power), 64 VCCIO5 (power), 74 VCCIO5 (power), 84 VCCAUX (power), 85 VCCIO4 (power), 104 VCCIO4 (power), 106 VCCIO3 (power), 120 VCCIO3 (power), 128 VCC (power), 135 VCC (power), 136 VCCAUX (power), 145 VCCIO2 (power), 155 VCCIO2 (power), 157 VCCIO1 (power), 176 VCCIO1 (power), 177 VCCAUX (power), 187 VCCIO0 (power), 197 VCCIO0 (power), 208 VCCIO0 (power)
part K pins: 1 GND0-GND7 (power), 28 GND (power), 41 GND6 (power), 52 GND5-GND6 (power), 72 GND5 (power), 82 GND5 (power), 93 GND4 (power), 105 GND3-GND4 (power), 116 GND3 (power), 132 GND (power), 134 GND (power), 138 GND2 (power), 156 GND1-GND2 (power), 168 GND1 (power), 179 GND0 (power), 189 GND0 (power)
part L pins: 5 NC, 6 NC, 18 NC, 24 NC, 25 NC, 103 NC, 151 NC, 152 NC, 158 NC
part A text: BANK 0
part B text: BANK 1
part C text: BANK 2
part D text: BANK 3
part E text: BANK 4
part F text: BANK 5
part G text: BANK 6
part H text: BANK 7

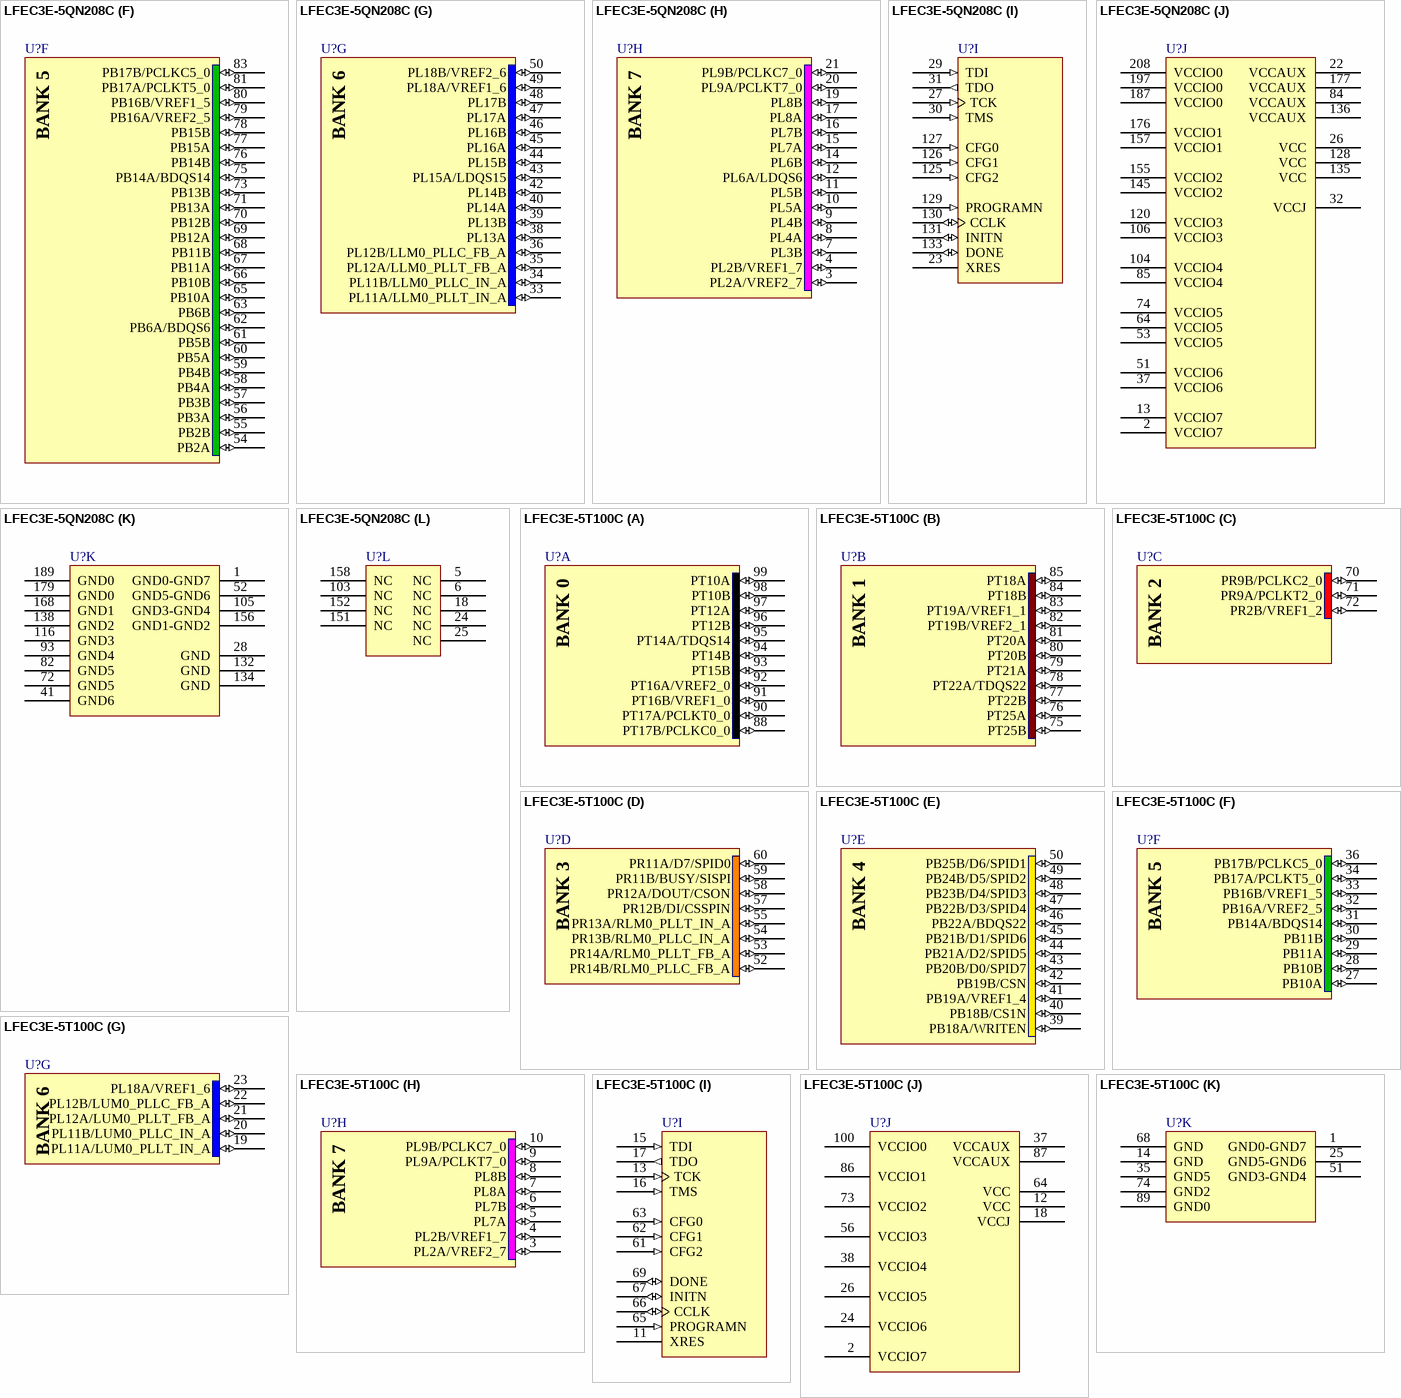
[diagram p45: symbols LFEC3E-5QN208C to LFEC3E-5T100C]

## LFEC3E-5QN208C
designator U?
EC 1.2V FPGA, 145 I/Os, 2 PLLs, 3.1K LUTs, 208-Pin PQFP, Speed Grade 5, Commercial Grade, Pb-Free; Note: Pins 1, 52, 105 and 156 are double bonded.; DatasheetVersion: ver2.2, Mar-2006; PackageVersion: ver01.8, Dec-2008; PackageReference: PQFP208; PackageDescription: 208-Pin Plastic Quad Flat Pack (PQFP208); Code_JEDEC: MO-143-FAI; ComponentLink1Description: Manufacturer URL; ComponentLink1URL: http://www.latticesemi.com/; ComponentLink2Description: Datasheet; ComponentLink2URL: http://www.latticesemi.com/lit/docs/datasheets/fpga/ecp_ec_datasheet.pdf; ComponentLink3Description: Package Specification; ComponentLink3URL: http://www.latticesemi.com/lit/docs/package/pkg.pdf
footprint PQFP208_N (Shrink QFP, 208-Leads, Body 28x28mm, Pitch 0.5mm, IPC Medium Density)
footprint PQFP208_L (Shrink QFP, 208-Leads, Body 28x28mm, Pitch 0.5mm, IPC High Density)
footprint PQFP208_M (Shrink QFP, 208-Leads, Body 28x28mm, Pitch 0.5mm, IPC Low Density)
part A pins: 178 PT17B/PCLKC0_0 (io), 180 PT17A/PCLKT0_0 (io), 181 PT16B/VREF1_0 (io), 182 PT16A/VREF2_0 (io), 183 PT15B (io), 184 PT15A (io), 185 PT14B (io), 186 PT14A/TDQS14 (io), 188 PT13B (io), 190 PT13A (io), 191 PT12B (io), 192 PT12A (io), 193 PT11B (io), 194 PT11A (io), 195 PT10B (io), 196 PT10A (io), 198 PT6B (io), 199 PT6A/TDQS6 (io), 200 PT5B (io), 201 PT5A (io), 202 PT4B (io), 203 PT4A (io), 204 PT3B (io), 205 PT3A (io), 206 PT2B (io), 207 PT2A (io)
part B pins: 159 PT25B (io), 160 PT25A (io), 161 PT24B (io), 162 PT24A (io), 163 PT23B (io), 164 PT23A (io), 165 PT22B (io), 166 PT22A/TDQS22 (io), 167 PT21B (io), 169 PT21A (io), 170 PT20B (io), 171 PT20A (io), 172 PT19B/VREF2_1 (io), 173 PT19A/VREF1_1 (io), 174 PT18B (io), 175 PT18A (io)
part C pins: 137 PR9B/PCLKC2_0 (io), 139 PR9A/PCLKT2_0 (io), 140 PR8B (io), 141 PR8A (io), 142 PR7B (io), 143 PR7A (io), 144 PR6B (io), 146 PR6A/RDQS6 (io), 147 PR5B (io), 148 PR5A (io), 149 PR4B (io), 150 PR4A (io), 153 PR2B/VREF1_2 (io), 154 PR2A/VREF2_2 (io)
part D pins: 107 PR18B/VREF2_3 (io), 108 PR18A/VREF1_3 (io), 109 PR17B (io), 110 PR17A (io), 111 PR16B (io), 112 PR16A (io), 113 PR15B (io), 114 PR15A/RDQS15 (io), 115 PR14B/RLM0_PLLC_FB_A (io), 117 PR14A/RLM0_PLLT_FB_A (io), 118 PR13B/RLM0_PLLC_IN_A (io), 119 PR13A/RLM0_PLLT_IN_A (io), 121 PR12B/DI/CSSPIN (io), 122 PR12A/DOUT/CSON (io), 123 PR11B/BUSY/SISPI (io), 124 PR11A/D7/SPID0 (io)
part E pins: 86 PB18A/WRITEN (io), 87 PB18B/CS1N (io), 88 PB19A/VREF1_4 (io), 89 PB19B/CSN (io), 90 PB20A/VREF2_4 (io), 91 PB20B/D0/SPID7 (io), 92 PB21A/D2/SPID5 (io), 94 PB21B/D1/SPID6 (io), 95 PB22A/BDQS22 (io), 96 PB22B/D3/SPID4 (io), 97 PB23A (io), 98 PB23B/D4/SPID3 (io), 99 PB24A (io), 100 PB24B/D5/SPID2 (io), 101 PB25A (io), 102 PB25B/D6/SPID1 (io)
part F pins: 54 PB2A (io), 55 PB2B (io), 56 PB3A (io), 57 PB3B (io), 58 PB4A (io), 59 PB4B (io), 60 PB5A (io), 61 PB5B (io), 62 PB6A/BDQS6 (io), 63 PB6B (io), 65 PB10A (io), 66 PB10B (io), 67 PB11A (io), 68 PB11B (io), 69 PB12A (io), 70 PB12B (io), 71 PB13A (io), 73 PB13B (io), 75 PB14A/BDQS14 (io), 76 PB14B (io), 77 PB15A (io), 78 PB15B (io), 79 PB16A/VREF2_5 (io), 80 PB16B/VREF1_5 (io), 81 PB17A/PCLKT5_0 (io), 83 PB17B/PCLKC5_0 (io)
part G pins: 33 PL11A/LLM0_PLLT_IN_A (io), 34 PL11B/LLM0_PLLC_IN_A (io), 35 PL12A/LLM0_PLLT_FB_A (io), 36 PL12B/LLM0_PLLC_FB_A (io), 38 PL13A (io), 39 PL13B (io), 40 PL14A (io), 42 PL14B (io), 43 PL15A/LDQS15 (io), 44 PL15B (io), 45 PL16A (io), 46 PL16B (io), 47 PL17A (io), 48 PL17B (io), 49 PL18A/VREF1_6 (io), 50 PL18B/VREF2_6 (io)
part H pins: 3 PL2A/VREF2_7 (io), 4 PL2B/VREF1_7 (io), 7 PL3B (io), 8 PL4A (io), 9 PL4B (io), 10 PL5A (io), 11 PL5B (io), 12 PL6A/LDQS6 (io), 14 PL6B (io), 15 PL7A (io), 16 PL7B (io), 17 PL8A (io), 19 PL8B (io), 20 PL9A/PCLKT7_0 (io), 21 PL9B/PCLKC7_0 (io)
part I pins: 23 XRES, 27 TCK (in), 29 TDI (in), 30 TMS (in), 31 TDO (out), 125 CFG2 (in), 126 CFG1 (in), 127 CFG0 (in), 129 PROGRAMN (in), 130 CCLK (io), 131 INITN (io), 133 DONE (io)
part J pins: 2 VCCIO7 (power), 13 VCCIO7 (power), 22 VCCAUX (power), 26 VCC (power), 32 VCCJ (power), 37 VCCIO6 (power), 51 VCCIO6 (power), 53 VCCIO5 (power), 64 VCCIO5 (power), 74 VCCIO5 (power), 84 VCCAUX (power), 85 VCCIO4 (power), 104 VCCIO4 (power), 106 VCCIO3 (power), 120 VCCIO3 (power), 128 VCC (power), 135 VCC (power), 136 VCCAUX (power), 145 VCCIO2 (power), 155 VCCIO2 (power), 157 VCCIO1 (power), 176 VCCIO1 (power), 177 VCCAUX (power), 187 VCCIO0 (power), 197 VCCIO0 (power), 208 VCCIO0 (power)
part K pins: 1 GND0-GND7 (power), 28 GND (power), 41 GND6 (power), 52 GND5-GND6 (power), 72 GND5 (power), 82 GND5 (power), 93 GND4 (power), 105 GND3-GND4 (power), 116 GND3 (power), 132 GND (power), 134 GND (power), 138 GND2 (power), 156 GND1-GND2 (power), 168 GND1 (power), 179 GND0 (power), 189 GND0 (power)
part L pins: 5 NC, 6 NC, 18 NC, 24 NC, 25 NC, 103 NC, 151 NC, 152 NC, 158 NC
part A text: BANK 0
part B text: BANK 1
part C text: BANK 2
part D text: BANK 3
part E text: BANK 4
part F text: BANK 5
part G text: BANK 6
part H text: BANK 7

## LFEC3E-5T100C
designator U?
EC 1.2V FPGA, 65 I/Os, 2 PLLs, 3.1K LUTs, 100-Pin TQFP, Speed Grade 5, Commercial Grade; Note: Pins 1, 25 and 51 are double bonded.; DatasheetVersion: ver2.2, Mar-2006; PackageVersion: ver02.8, Jul-2011; PackageReference: TQFP100; PackageDescription: 100-Pin Thin Quad Flat Pack (TQFP100); Code_JEDEC: MS-026-BED; ComponentLink1Description: Manufacturer URL; ComponentLink1URL: http://www.latticesemi.com/; ComponentLink2Description: Datasheet; ComponentLink2URL: http://www.latticesemi.com/lit/docs/datasheets/fpga/ecp_ec_datasheet.pdf; ComponentLink3Description: Package Specification; ComponentLink3URL: http://www.latticesemi.com/lit/docs/package/pkg.pdf
footprint TQFP100_N (Thin QFP, 100-Leads, Body 14x14mm, Pitch 0.5mm, IPC Medium Density)
footprint TQFP100_L (Thin QFP, 100-Leads, Body 14x14mm, Pitch 0.5mm, IPC High Density)
footprint TQFP100_M (Thin QFP, 100-Leads, Body 14x14mm, Pitch 0.5mm, IPC Low Density)
part A pins: 88 PT17B/PCLKC0_0 (io), 90 PT17A/PCLKT0_0 (io), 91 PT16B/VREF1_0 (io), 92 PT16A/VREF2_0 (io), 93 PT15B (io), 94 PT14B (io), 95 PT14A/TDQS14 (io), 96 PT12B (io), 97 PT12A (io), 98 PT10B (io), 99 PT10A (io)
part B pins: 75 PT25B (io), 76 PT25A (io), 77 PT22B (io), 78 PT22A/TDQS22 (io), 79 PT21A (io), 80 PT20B (io), 81 PT20A (io), 82 PT19B/VREF2_1 (io), 83 PT19A/VREF1_1 (io), 84 PT18B (io), 85 PT18A (io)
part C pins: 70 PR9B/PCLKC2_0 (io), 71 PR9A/PCLKT2_0 (io), 72 PR2B/VREF1_2 (io)
part D pins: 52 PR14B/RLM0_PLLC_FB_A (io), 53 PR14A/RLM0_PLLT_FB_A (io), 54 PR13B/RLM0_PLLC_IN_A (io), 55 PR13A/RLM0_PLLT_IN_A (io), 57 PR12B/DI/CSSPIN (io), 58 PR12A/DOUT/CSON (io), 59 PR11B/BUSY/SISPI (io), 60 PR11A/D7/SPID0 (io)
part E pins: 39 PB18A/WRITEN (io), 40 PB18B/CS1N (io), 41 PB19A/VREF1_4 (io), 42 PB19B/CSN (io), 43 PB20B/D0/SPID7 (io), 44 PB21A/D2/SPID5 (io), 45 PB21B/D1/SPID6 (io), 46 PB22A/BDQS22 (io), 47 PB22B/D3/SPID4 (io), 48 PB23B/D4/SPID3 (io), 49 PB24B/D5/SPID2 (io), 50 PB25B/D6/SPID1 (io)
part F pins: 27 PB10A (io), 28 PB10B (io), 29 PB11A (io), 30 PB11B (io), 31 PB14A/BDQS14 (io), 32 PB16A/VREF2_5 (io), 33 PB16B/VREF1_5 (io), 34 PB17A/PCLKT5_0 (io), 36 PB17B/PCLKC5_0 (io)
part G pins: 19 PL11A/LUM0_PLLT_IN_A (io), 20 PL11B/LUM0_PLLC_IN_A (io), 21 PL12A/LUM0_PLLT_FB_A (io), 22 PL12B/LUM0_PLLC_FB_A (io), 23 PL18A/VREF1_6 (io)
part H pins: 3 PL2A/VREF2_7 (io), 4 PL2B/VREF1_7 (io), 5 PL7A (io), 6 PL7B (io), 7 PL8A (io), 8 PL8B (io), 9 PL9A/PCLKT7_0 (io), 10 PL9B/PCLKC7_0 (io)
part I pins: 11 XRES, 13 TCK (in), 15 TDI (in), 16 TMS (in), 17 TDO (out), 61 CFG2 (in), 62 CFG1 (in), 63 CFG0 (in), 65 PROGRAMN (in), 66 CCLK (io), 67 INITN (io), 69 DONE (io)
part J pins: 2 VCCIO7 (power), 12 VCC (power), 18 VCCJ (power), 24 VCCIO6 (power), 26 VCCIO5 (power), 37 VCCAUX (power), 38 VCCIO4 (power), 56 VCCIO3 (power), 64 VCC (power), 73 VCCIO2 (power), 86 VCCIO1 (power), 87 VCCAUX (power), 100 VCCIO0 (power)
part K pins: 1 GND0-GND7 (power), 14 GND (power), 25 GND5-GND6 (power), 35 GND5 (power), 51 GND3-GND4 (power), 68 GND (power), 74 GND2 (power), 89 GND0 (power)
part A text: BANK 0
part B text: BANK 1
part C text: BANK 2
part D text: BANK 3
part E text: BANK 4
part F text: BANK 5
part G text: BANK 6
part H text: BANK 7

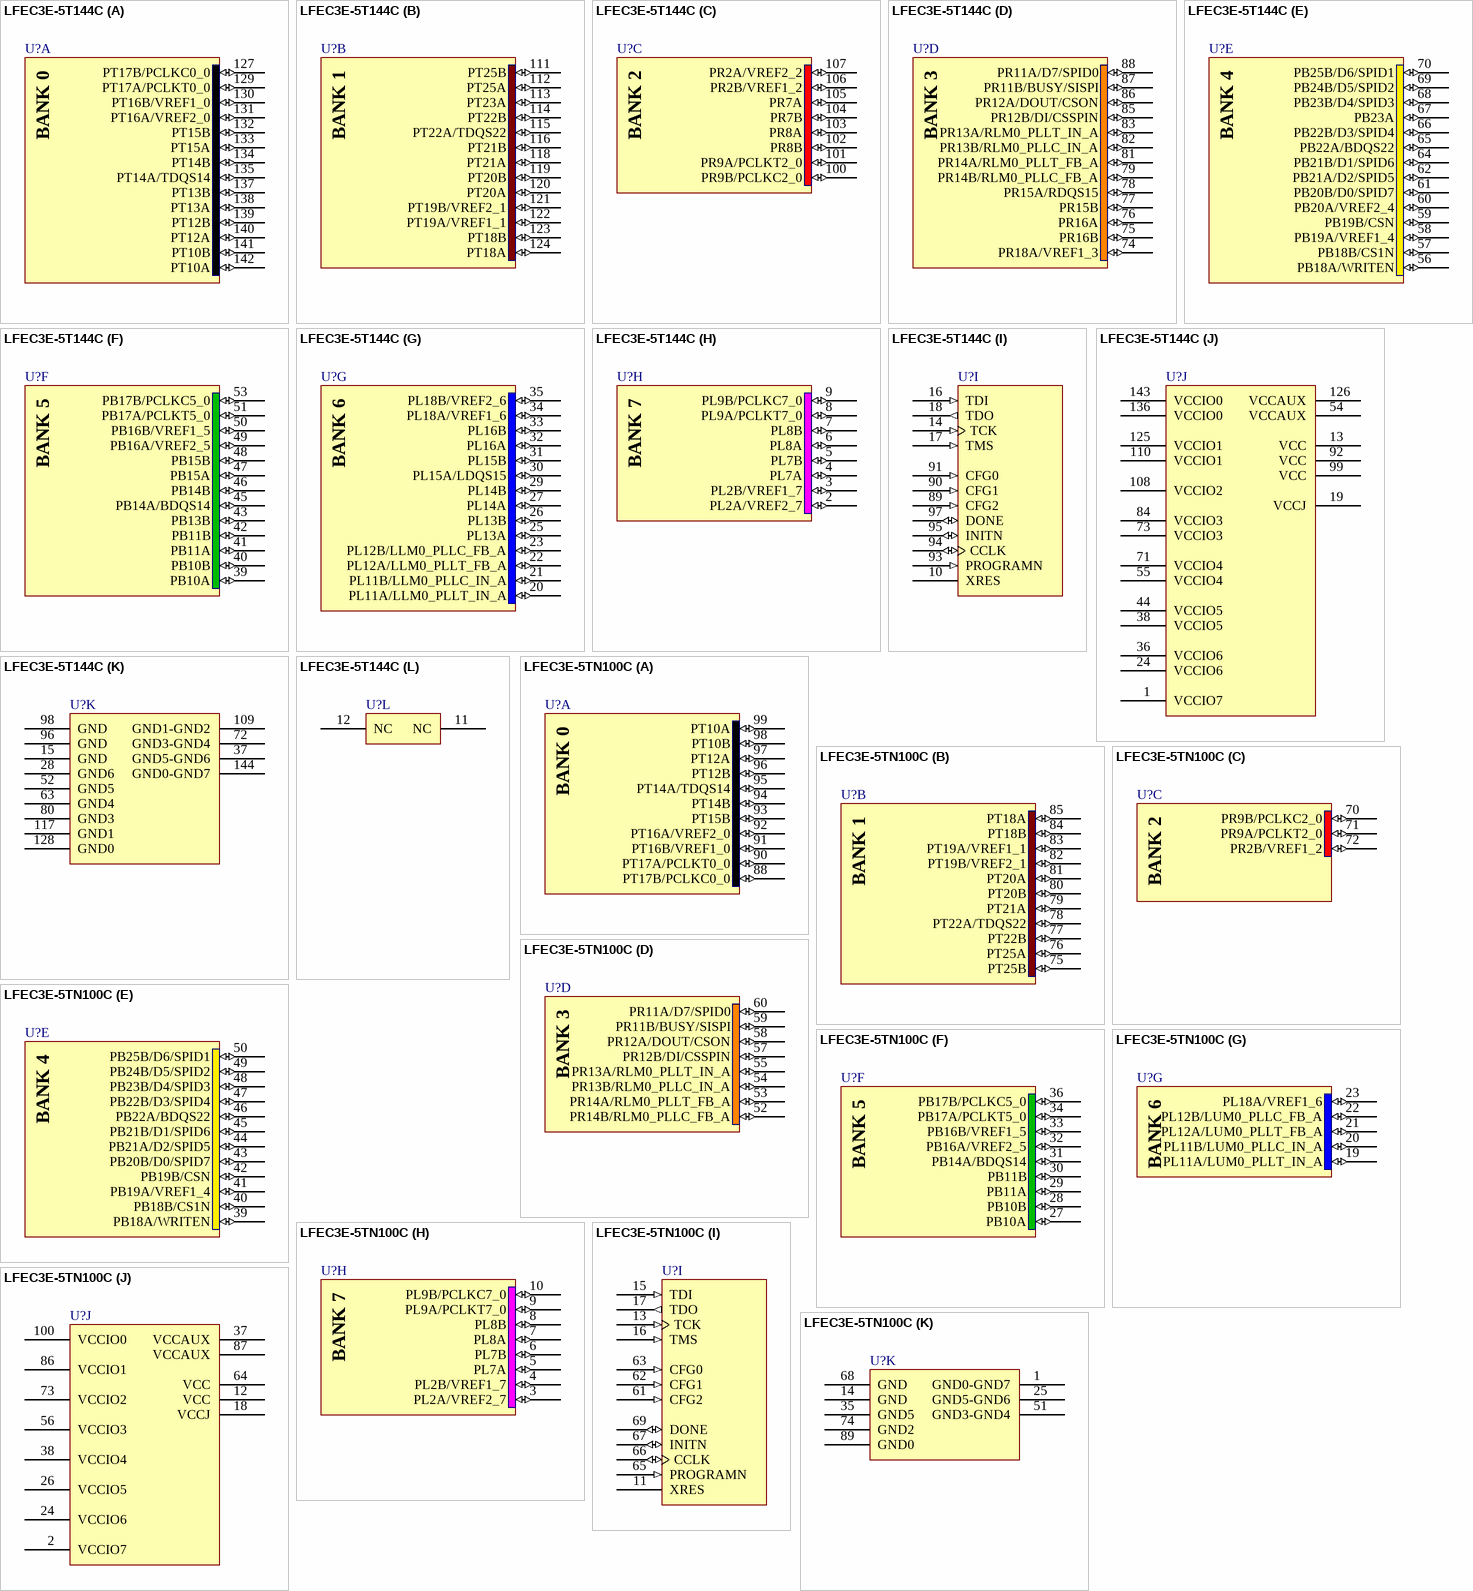
[diagram p46: symbols LFEC3E-5T144C to LFEC3E-5TN100C]

## LFEC3E-5T144C
designator U?
EC 1.2V FPGA, 97 I/Os, 2 PLLs, 3.1K LUTs, 144-Pin TQFP, Speed Grade 5, Commercial Grade; Note: Pins 37, 72, 109 and 144 are double bonded.; DatasheetVersion: ver2.2, Mar-2006; PackageVersion: ver02.8, Jul-2011; PackageReference: TQFP144; PackageDescription: 144-Pin Thin Quad Flat Pack (TQFP144); Code_JEDEC: MS-026-BFB; ComponentLink1Description: Manufacturer URL; ComponentLink1URL: http://www.latticesemi.com/; ComponentLink2Description: Datasheet; ComponentLink2URL: http://www.latticesemi.com/lit/docs/datasheets/fpga/ecp_ec_datasheet.pdf; ComponentLink3Description: Package Specification; ComponentLink3URL: http://www.latticesemi.com/lit/docs/package/pkg.pdf
footprint TQFP144_N (Thin QFP, 144-Leads, Body 20x20mm, Pitch 0.5mm, IPC Medium Density)
footprint TQFP144_L (Thin QFP, 144-Leads, Body 20x20mm, Pitch 0.5mm, IPC High Density)
footprint TQFP144_M (Thin QFP, 144-Leads, Body 20x20mm, Pitch 0.5mm, IPC Low Density)
part A pins: 127 PT17B/PCLKC0_0 (io), 129 PT17A/PCLKT0_0 (io), 130 PT16B/VREF1_0 (io), 131 PT16A/VREF2_0 (io), 132 PT15B (io), 133 PT15A (io), 134 PT14B (io), 135 PT14A/TDQS14 (io), 137 PT13B (io), 138 PT13A (io), 139 PT12B (io), 140 PT12A (io), 141 PT10B (io), 142 PT10A (io)
part B pins: 111 PT25B (io), 112 PT25A (io), 113 PT23A (io), 114 PT22B (io), 115 PT22A/TDQS22 (io), 116 PT21B (io), 118 PT21A (io), 119 PT20B (io), 120 PT20A (io), 121 PT19B/VREF2_1 (io), 122 PT19A/VREF1_1 (io), 123 PT18B (io), 124 PT18A (io)
part C pins: 100 PR9B/PCLKC2_0 (io), 101 PR9A/PCLKT2_0 (io), 102 PR8B (io), 103 PR8A (io), 104 PR7B (io), 105 PR7A (io), 106 PR2B/VREF1_2 (io), 107 PR2A/VREF2_2 (io)
part D pins: 74 PR18A/VREF1_3 (io), 75 PR16B (io), 76 PR16A (io), 77 PR15B (io), 78 PR15A/RDQS15 (io), 79 PR14B/RLM0_PLLC_FB_A (io), 81 PR14A/RLM0_PLLT_FB_A (io), 82 PR13B/RLM0_PLLC_IN_A (io), 83 PR13A/RLM0_PLLT_IN_A (io), 85 PR12B/DI/CSSPIN (io), 86 PR12A/DOUT/CSON (io), 87 PR11B/BUSY/SISPI (io), 88 PR11A/D7/SPID0 (io)
part E pins: 56 PB18A/WRITEN (io), 57 PB18B/CS1N (io), 58 PB19A/VREF1_4 (io), 59 PB19B/CSN (io), 60 PB20A/VREF2_4 (io), 61 PB20B/D0/SPID7 (io), 62 PB21A/D2/SPID5 (io), 64 PB21B/D1/SPID6 (io), 65 PB22A/BDQS22 (io), 66 PB22B/D3/SPID4 (io), 67 PB23A (io), 68 PB23B/D4/SPID3 (io), 69 PB24B/D5/SPID2 (io), 70 PB25B/D6/SPID1 (io)
part F pins: 39 PB10A (io), 40 PB10B (io), 41 PB11A (io), 42 PB11B (io), 43 PB13B (io), 45 PB14A/BDQS14 (io), 46 PB14B (io), 47 PB15A (io), 48 PB15B (io), 49 PB16A/VREF2_5 (io), 50 PB16B/VREF1_5 (io), 51 PB17A/PCLKT5_0 (io), 53 PB17B/PCLKC5_0 (io)
part G pins: 20 PL11A/LLM0_PLLT_IN_A (io), 21 PL11B/LLM0_PLLC_IN_A (io), 22 PL12A/LLM0_PLLT_FB_A (io), 23 PL12B/LLM0_PLLC_FB_A (io), 25 PL13A (io), 26 PL13B (io), 27 PL14A (io), 29 PL14B (io), 30 PL15A/LDQS15 (io), 31 PL15B (io), 32 PL16A (io), 33 PL16B (io), 34 PL18A/VREF1_6 (io), 35 PL18B/VREF2_6 (io)
part H pins: 2 PL2A/VREF2_7 (io), 3 PL2B/VREF1_7 (io), 4 PL7A (io), 5 PL7B (io), 6 PL8A (io), 7 PL8B (io), 8 PL9A/PCLKT7_0 (io), 9 PL9B/PCLKC7_0 (io)
part I pins: 10 XRES, 14 TCK (in), 16 TDI (in), 17 TMS (in), 18 TDO (out), 89 CFG2 (in), 90 CFG1 (in), 91 CFG0 (in), 93 PROGRAMN (in), 94 CCLK (io), 95 INITN (io), 97 DONE (io)
part J pins: 1 VCCIO7 (power), 13 VCC (power), 19 VCCJ (power), 24 VCCIO6 (power), 36 VCCIO6 (power), 38 VCCIO5 (power), 44 VCCIO5 (power), 54 VCCAUX (power), 55 VCCIO4 (power), 71 VCCIO4 (power), 73 VCCIO3 (power), 84 VCCIO3 (power), 92 VCC (power), 99 VCC (power), 108 VCCIO2 (power), 110 VCCIO1 (power), 125 VCCIO1 (power), 126 VCCAUX (power), 136 VCCIO0 (power), 143 VCCIO0 (power)
part K pins: 15 GND (power), 28 GND6 (power), 37 GND5-GND6 (power), 52 GND5 (power), 63 GND4 (power), 72 GND3-GND4 (power), 80 GND3 (power), 96 GND (power), 98 GND (power), 109 GND1-GND2 (power), 117 GND1 (power), 128 GND0 (power), 144 GND0-GND7 (power)
part L pins: 11 NC, 12 NC
part A text: BANK 0
part B text: BANK 1
part C text: BANK 2
part D text: BANK 3
part E text: BANK 4
part F text: BANK 5
part G text: BANK 6
part H text: BANK 7

## LFEC3E-5TN100C
designator U?
EC 1.2V FPGA, 67 I/Os, 2 PLLs, 3.1K LUTs, 100-Pin TQFP, Speed Grade 5, Commercial Grade, Pb-Free; Note: Pins 1, 25 and 51 are double bonded.; DatasheetVersion: ver2.2, Mar-2006; PackageVersion: ver02.8, Jul-2011; PackageReference: TQFP100; PackageDescription: 100-Pin Thin Quad Flat Pack (TQFP100); Code_JEDEC: MS-026-BED; ComponentLink1Description: Manufacturer URL; ComponentLink1URL: http://www.latticesemi.com/; ComponentLink2Description: Datasheet; ComponentLink2URL: http://www.latticesemi.com/lit/docs/datasheets/fpga/ecp_ec_datasheet.pdf; ComponentLink3Description: Package Specification; ComponentLink3URL: http://www.latticesemi.com/lit/docs/package/pkg.pdf
footprint TQFP100_N (Thin QFP, 100-Leads, Body 14x14mm, Pitch 0.5mm, IPC Medium Density)
footprint TQFP100_L (Thin QFP, 100-Leads, Body 14x14mm, Pitch 0.5mm, IPC High Density)
footprint TQFP100_M (Thin QFP, 100-Leads, Body 14x14mm, Pitch 0.5mm, IPC Low Density)
part A pins: 88 PT17B/PCLKC0_0 (io), 90 PT17A/PCLKT0_0 (io), 91 PT16B/VREF1_0 (io), 92 PT16A/VREF2_0 (io), 93 PT15B (io), 94 PT14B (io), 95 PT14A/TDQS14 (io), 96 PT12B (io), 97 PT12A (io), 98 PT10B (io), 99 PT10A (io)
part B pins: 75 PT25B (io), 76 PT25A (io), 77 PT22B (io), 78 PT22A/TDQS22 (io), 79 PT21A (io), 80 PT20B (io), 81 PT20A (io), 82 PT19B/VREF2_1 (io), 83 PT19A/VREF1_1 (io), 84 PT18B (io), 85 PT18A (io)
part C pins: 70 PR9B/PCLKC2_0 (io), 71 PR9A/PCLKT2_0 (io), 72 PR2B/VREF1_2 (io)
part D pins: 52 PR14B/RLM0_PLLC_FB_A (io), 53 PR14A/RLM0_PLLT_FB_A (io), 54 PR13B/RLM0_PLLC_IN_A (io), 55 PR13A/RLM0_PLLT_IN_A (io), 57 PR12B/DI/CSSPIN (io), 58 PR12A/DOUT/CSON (io), 59 PR11B/BUSY/SISPI (io), 60 PR11A/D7/SPID0 (io)
part E pins: 39 PB18A/WRITEN (io), 40 PB18B/CS1N (io), 41 PB19A/VREF1_4 (io), 42 PB19B/CSN (io), 43 PB20B/D0/SPID7 (io), 44 PB21A/D2/SPID5 (io), 45 PB21B/D1/SPID6 (io), 46 PB22A/BDQS22 (io), 47 PB22B/D3/SPID4 (io), 48 PB23B/D4/SPID3 (io), 49 PB24B/D5/SPID2 (io), 50 PB25B/D6/SPID1 (io)
part F pins: 27 PB10A (io), 28 PB10B (io), 29 PB11A (io), 30 PB11B (io), 31 PB14A/BDQS14 (io), 32 PB16A/VREF2_5 (io), 33 PB16B/VREF1_5 (io), 34 PB17A/PCLKT5_0 (io), 36 PB17B/PCLKC5_0 (io)
part G pins: 19 PL11A/LUM0_PLLT_IN_A (io), 20 PL11B/LUM0_PLLC_IN_A (io), 21 PL12A/LUM0_PLLT_FB_A (io), 22 PL12B/LUM0_PLLC_FB_A (io), 23 PL18A/VREF1_6 (io)
part H pins: 3 PL2A/VREF2_7 (io), 4 PL2B/VREF1_7 (io), 5 PL7A (io), 6 PL7B (io), 7 PL8A (io), 8 PL8B (io), 9 PL9A/PCLKT7_0 (io), 10 PL9B/PCLKC7_0 (io)
part I pins: 11 XRES, 13 TCK (in), 15 TDI (in), 16 TMS (in), 17 TDO (out), 61 CFG2 (in), 62 CFG1 (in), 63 CFG0 (in), 65 PROGRAMN (in), 66 CCLK (io), 67 INITN (io), 69 DONE (io)
part J pins: 2 VCCIO7 (power), 12 VCC (power), 18 VCCJ (power), 24 VCCIO6 (power), 26 VCCIO5 (power), 37 VCCAUX (power), 38 VCCIO4 (power), 56 VCCIO3 (power), 64 VCC (power), 73 VCCIO2 (power), 86 VCCIO1 (power), 87 VCCAUX (power), 100 VCCIO0 (power)
part K pins: 1 GND0-GND7 (power), 14 GND (power), 25 GND5-GND6 (power), 35 GND5 (power), 51 GND3-GND4 (power), 68 GND (power), 74 GND2 (power), 89 GND0 (power)
part A text: BANK 0
part B text: BANK 1
part C text: BANK 2
part D text: BANK 3
part E text: BANK 4
part F text: BANK 5
part G text: BANK 6
part H text: BANK 7

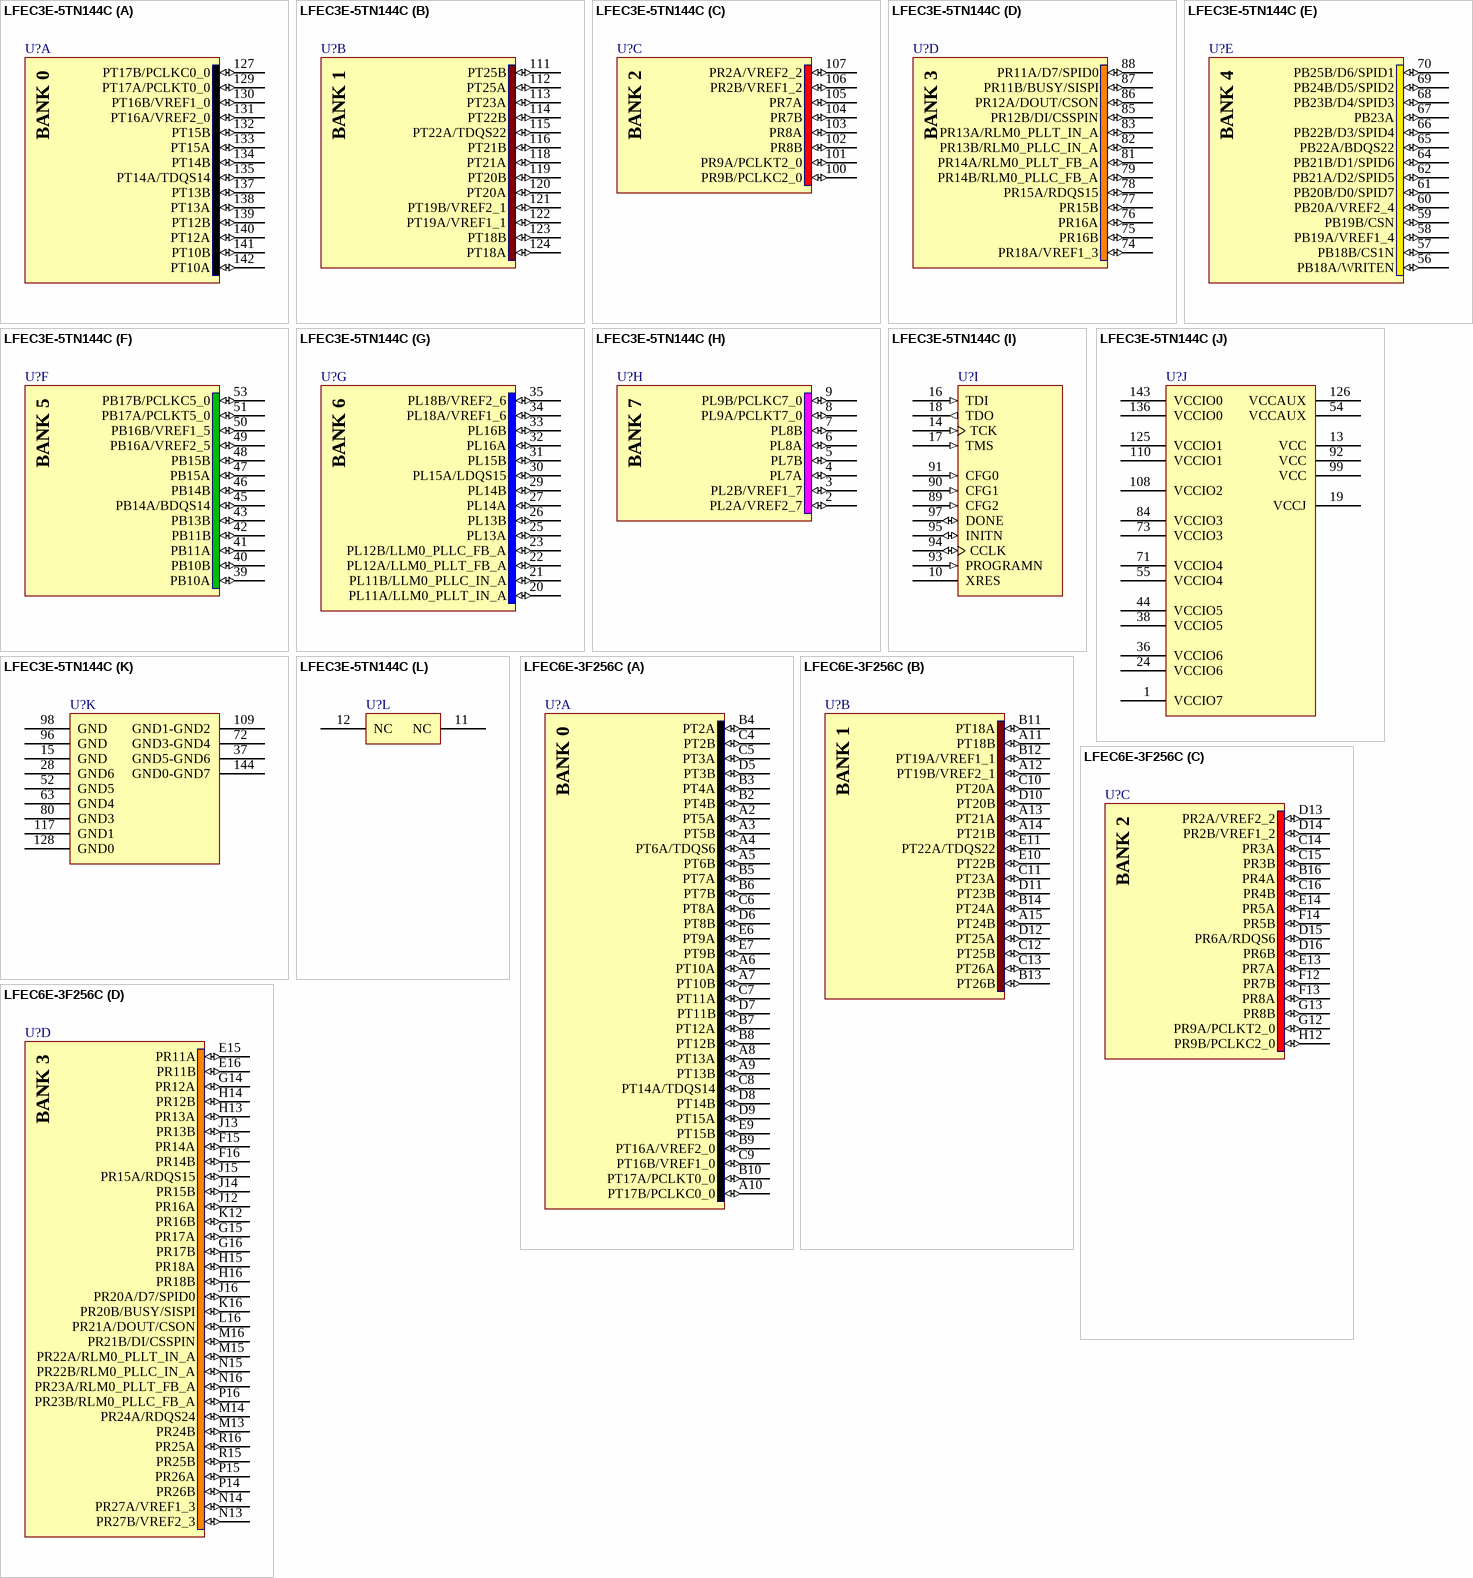
[diagram p47: symbols LFEC3E-5TN144C to LFEC6E-3F256C]

## LFEC3E-5TN144C
designator U?
EC 1.2V FPGA, 97 I/Os, 2 PLLs, 3.1K LUTs, 144-Pin TQFP, Speed Grade 5, Commercial Grade, Pb-Free; Note: Pins 37, 72, 109 and 144 are double bonded.; DatasheetVersion: ver2.2, Mar-2006; PackageVersion: ver02.8, Jul-2011; PackageReference: TQFP144; PackageDescription: 144-Pin Thin Quad Flat Pack (TQFP144); Code_JEDEC: MS-026-BFB; ComponentLink1Description: Manufacturer URL; ComponentLink1URL: http://www.latticesemi.com/; ComponentLink2Description: Datasheet; ComponentLink2URL: http://www.latticesemi.com/lit/docs/datasheets/fpga/ecp_ec_datasheet.pdf; ComponentLink3Description: Package Specification; ComponentLink3URL: http://www.latticesemi.com/lit/docs/package/pkg.pdf
footprint TQFP144_N (Thin QFP, 144-Leads, Body 20x20mm, Pitch 0.5mm, IPC Medium Density)
footprint TQFP144_L (Thin QFP, 144-Leads, Body 20x20mm, Pitch 0.5mm, IPC High Density)
footprint TQFP144_M (Thin QFP, 144-Leads, Body 20x20mm, Pitch 0.5mm, IPC Low Density)
part A pins: 127 PT17B/PCLKC0_0 (io), 129 PT17A/PCLKT0_0 (io), 130 PT16B/VREF1_0 (io), 131 PT16A/VREF2_0 (io), 132 PT15B (io), 133 PT15A (io), 134 PT14B (io), 135 PT14A/TDQS14 (io), 137 PT13B (io), 138 PT13A (io), 139 PT12B (io), 140 PT12A (io), 141 PT10B (io), 142 PT10A (io)
part B pins: 111 PT25B (io), 112 PT25A (io), 113 PT23A (io), 114 PT22B (io), 115 PT22A/TDQS22 (io), 116 PT21B (io), 118 PT21A (io), 119 PT20B (io), 120 PT20A (io), 121 PT19B/VREF2_1 (io), 122 PT19A/VREF1_1 (io), 123 PT18B (io), 124 PT18A (io)
part C pins: 100 PR9B/PCLKC2_0 (io), 101 PR9A/PCLKT2_0 (io), 102 PR8B (io), 103 PR8A (io), 104 PR7B (io), 105 PR7A (io), 106 PR2B/VREF1_2 (io), 107 PR2A/VREF2_2 (io)
part D pins: 74 PR18A/VREF1_3 (io), 75 PR16B (io), 76 PR16A (io), 77 PR15B (io), 78 PR15A/RDQS15 (io), 79 PR14B/RLM0_PLLC_FB_A (io), 81 PR14A/RLM0_PLLT_FB_A (io), 82 PR13B/RLM0_PLLC_IN_A (io), 83 PR13A/RLM0_PLLT_IN_A (io), 85 PR12B/DI/CSSPIN (io), 86 PR12A/DOUT/CSON (io), 87 PR11B/BUSY/SISPI (io), 88 PR11A/D7/SPID0 (io)
part E pins: 56 PB18A/WRITEN (io), 57 PB18B/CS1N (io), 58 PB19A/VREF1_4 (io), 59 PB19B/CSN (io), 60 PB20A/VREF2_4 (io), 61 PB20B/D0/SPID7 (io), 62 PB21A/D2/SPID5 (io), 64 PB21B/D1/SPID6 (io), 65 PB22A/BDQS22 (io), 66 PB22B/D3/SPID4 (io), 67 PB23A (io), 68 PB23B/D4/SPID3 (io), 69 PB24B/D5/SPID2 (io), 70 PB25B/D6/SPID1 (io)
part F pins: 39 PB10A (io), 40 PB10B (io), 41 PB11A (io), 42 PB11B (io), 43 PB13B (io), 45 PB14A/BDQS14 (io), 46 PB14B (io), 47 PB15A (io), 48 PB15B (io), 49 PB16A/VREF2_5 (io), 50 PB16B/VREF1_5 (io), 51 PB17A/PCLKT5_0 (io), 53 PB17B/PCLKC5_0 (io)
part G pins: 20 PL11A/LLM0_PLLT_IN_A (io), 21 PL11B/LLM0_PLLC_IN_A (io), 22 PL12A/LLM0_PLLT_FB_A (io), 23 PL12B/LLM0_PLLC_FB_A (io), 25 PL13A (io), 26 PL13B (io), 27 PL14A (io), 29 PL14B (io), 30 PL15A/LDQS15 (io), 31 PL15B (io), 32 PL16A (io), 33 PL16B (io), 34 PL18A/VREF1_6 (io), 35 PL18B/VREF2_6 (io)
part H pins: 2 PL2A/VREF2_7 (io), 3 PL2B/VREF1_7 (io), 4 PL7A (io), 5 PL7B (io), 6 PL8A (io), 7 PL8B (io), 8 PL9A/PCLKT7_0 (io), 9 PL9B/PCLKC7_0 (io)
part I pins: 10 XRES, 14 TCK (in), 16 TDI (in), 17 TMS (in), 18 TDO (out), 89 CFG2 (in), 90 CFG1 (in), 91 CFG0 (in), 93 PROGRAMN (in), 94 CCLK (io), 95 INITN (io), 97 DONE (io)
part J pins: 1 VCCIO7 (power), 13 VCC (power), 19 VCCJ (power), 24 VCCIO6 (power), 36 VCCIO6 (power), 38 VCCIO5 (power), 44 VCCIO5 (power), 54 VCCAUX (power), 55 VCCIO4 (power), 71 VCCIO4 (power), 73 VCCIO3 (power), 84 VCCIO3 (power), 92 VCC (power), 99 VCC (power), 108 VCCIO2 (power), 110 VCCIO1 (power), 125 VCCIO1 (power), 126 VCCAUX (power), 136 VCCIO0 (power), 143 VCCIO0 (power)
part K pins: 15 GND (power), 28 GND6 (power), 37 GND5-GND6 (power), 52 GND5 (power), 63 GND4 (power), 72 GND3-GND4 (power), 80 GND3 (power), 96 GND (power), 98 GND (power), 109 GND1-GND2 (power), 117 GND1 (power), 128 GND0 (power), 144 GND0-GND7 (power)
part L pins: 11 NC, 12 NC
part A text: BANK 0
part B text: BANK 1
part C text: BANK 2
part D text: BANK 3
part E text: BANK 4
part F text: BANK 5
part G text: BANK 6
part H text: BANK 7

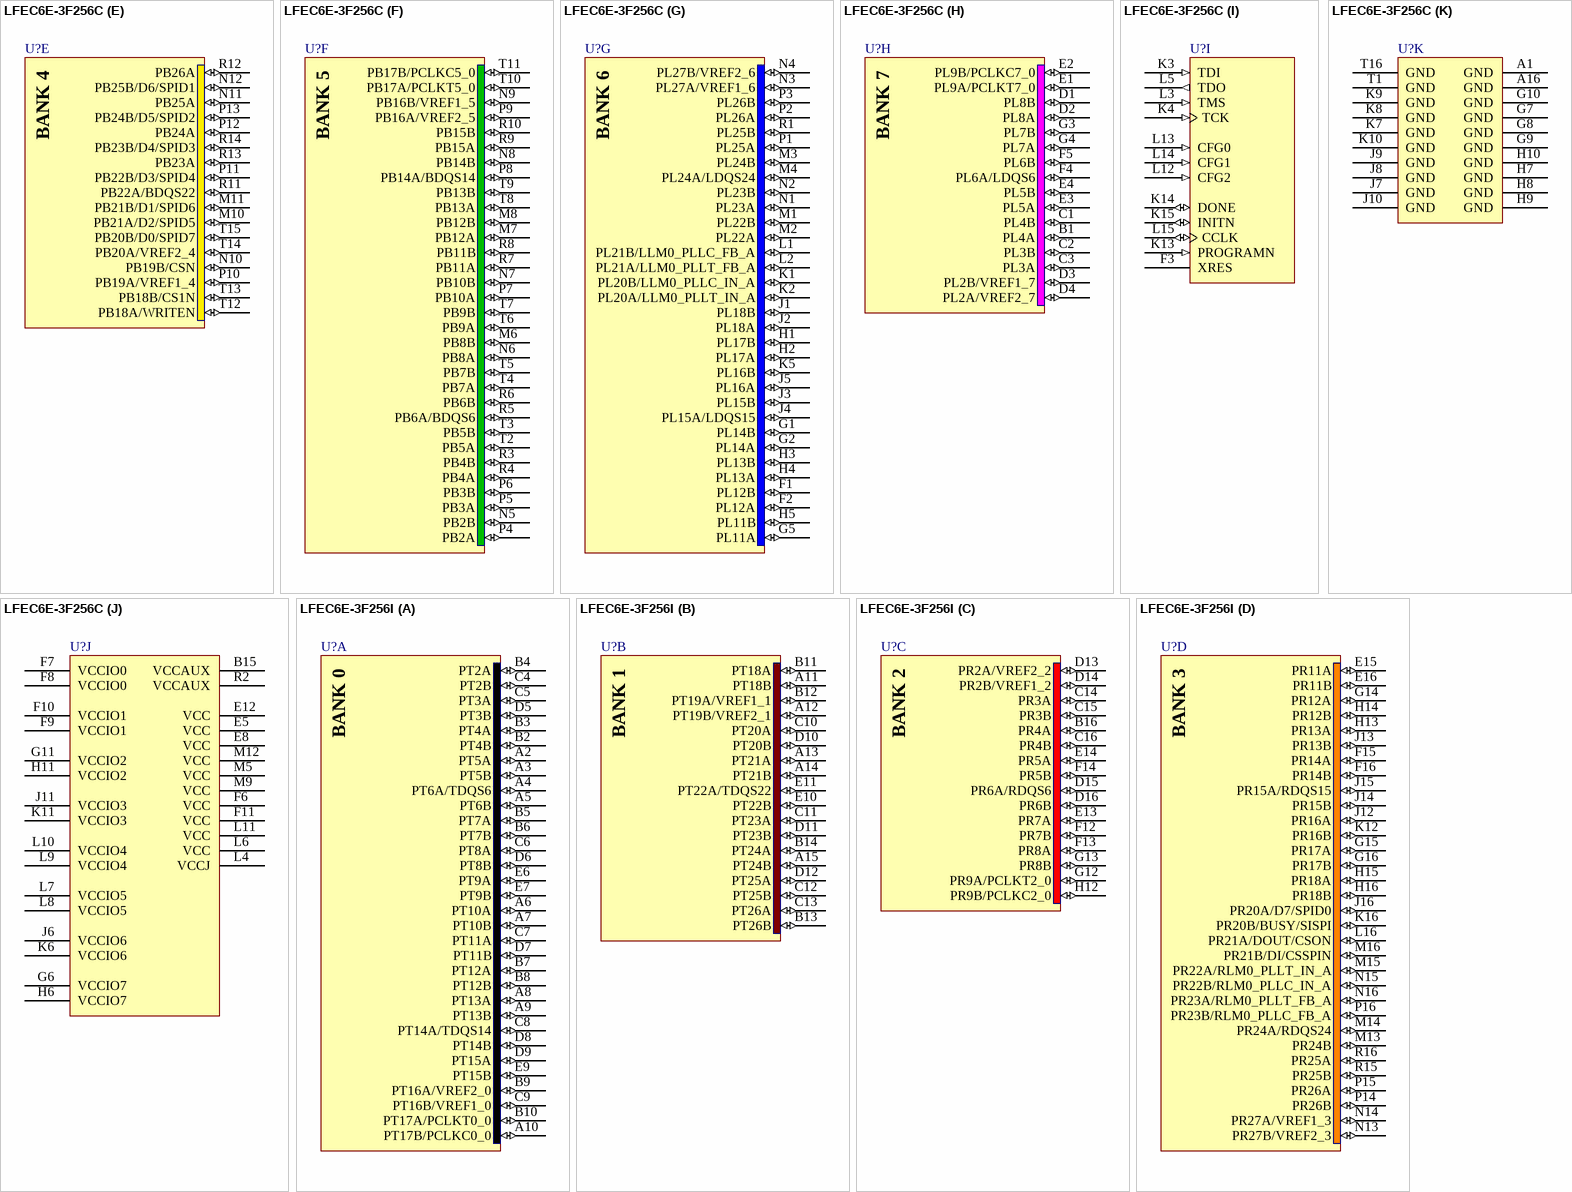
[diagram p48: symbols LFEC6E-3F256C to LFEC6E-3F256I]

## LFEC6E-3F256C
designator U?
EC 1.2V FPGA, 192 I/Os, 2 PLLs, 6.1K LUTs, 256-Pin fpBGA, Speed Grade 3, Commercial Grade; DatasheetVersion: ver2.2, Mar-2006; PackageVersion: ver01.8, Dec-2008; PackageReference: fpBGA256; PackageDescription: 256-Ball Fine Pitch Ball Grid Array (fpBGA256); Code_IPC: BGA100P16X16-256; ComponentLink1Description: Manufacturer URL; ComponentLink1URL: http://www.latticesemi.com/; ComponentLink2Description: Datasheet; ComponentLink2URL: http://www.latticesemi.com/lit/docs/datasheets/fpga/ecp_ec_datasheet.pdf; ComponentLink3Description: Package Specification; ComponentLink3URL: http://www.latticesemi.com/lit/docs/package/pkg.pdf
footprint fpBGA256 (BGA, 256-Leads, Body 17x17mm, Pitch 1mm)
part A pins: A2 PT5A (io), A3 PT5B (io), A4 PT6A/TDQS6 (io), A5 PT6B (io), A6 PT10A (io), A7 PT10B (io), A8 PT13A (io), A9 PT13B (io), A10 PT17B/PCLKC0_0 (io), B2 PT4B (io), B3 PT4A (io), B4 PT2A (io), B5 PT7A (io), B6 PT7B (io), B7 PT12A (io), B8 PT12B (io), B9 PT16A/VREF2_0 (io), B10 PT17A/PCLKT0_0 (io), C4 PT2B (io), C5 PT3A (io), C6 PT8A (io), C7 PT11A (io), C8 PT14A/TDQS14 (io), C9 PT16B/VREF1_0 (io), D5 PT3B (io), D6 PT8B (io), D7 PT11B (io), D8 PT14B (io), D9 PT15A (io), E6 PT9A (io), E7 PT9B (io), E9 PT15B (io)
part B pins: A11 PT18B (io), A12 PT19B/VREF2_1 (io), A13 PT21A (io), A14 PT21B (io), A15 PT24B (io), B11 PT18A (io), B12 PT19A/VREF1_1 (io), B13 PT26B (io), B14 PT24A (io), C10 PT20A (io), C11 PT23A (io), C12 PT25B (io), C13 PT26A (io), D10 PT20B (io), D11 PT23B (io), D12 PT25A (io), E10 PT22B (io), E11 PT22A/TDQS22 (io)
part C pins: B16 PR4A (io), C14 PR3A (io), C15 PR3B (io), C16 PR4B (io), D13 PR2A/VREF2_2 (io), D14 PR2B/VREF1_2 (io), D15 PR6A/RDQS6 (io), D16 PR6B (io), E13 PR7A (io), E14 PR5A (io), F12 PR7B (io), F13 PR8A (io), F14 PR5B (io), G12 PR9A/PCLKT2_0 (io), G13 PR8B (io), H12 PR9B/PCLKC2_0 (io)
part D pins: E15 PR11A (io), E16 PR11B (io), F15 PR14A (io), F16 PR14B (io), G14 PR12A (io), G15 PR17A (io), G16 PR17B (io), H13 PR13A (io), H14 PR12B (io), H15 PR18A (io), H16 PR18B (io), J12 PR16A (io), J13 PR13B (io), J14 PR15B (io), J15 PR15A/RDQS15 (io), J16 PR20A/D7/SPID0 (io), K12 PR16B (io), K16 PR20B/BUSY/SISPI (io), L16 PR21A/DOUT/CSON (io), M13 PR24B (io), M14 PR24A/RDQS24 (io), M15 PR22A/RLM0_PLLT_IN_A (io), M16 PR21B/DI/CSSPIN (io), N13 PR27B/VREF2_3 (io), N14 PR27A/VREF1_3 (io), N15 PR22B/RLM0_PLLC_IN_A (io), N16 PR23A/RLM0_PLLT_FB_A (io), P14 PR26B (io), P15 PR26A (io), P16 PR23B/RLM0_PLLC_FB_A (io), R15 PR25B (io), R16 PR25A (io)
part E pins: M10 PB21A/D2/SPID5 (io), M11 PB21B/D1/SPID6 (io), N10 PB19B/CSN (io), N11 PB25A (io), N12 PB25B/D6/SPID1 (io), P10 PB19A/VREF1_4 (io), P11 PB22B/D3/SPID4 (io), P12 PB24A (io), P13 PB24B/D5/SPID2 (io), R11 PB22A/BDQS22 (io), R12 PB26A (io), R13 PB23A (io), R14 PB23B/D4/SPID3 (io), T12 PB18A/WRITEN (io), T13 PB18B/CS1N (io), T14 PB20A/VREF2_4 (io), T15 PB20B/D0/SPID7 (io)
part F pins: M6 PB8B (io), M7 PB12A (io), M8 PB12B (io), N5 PB2B (io), N6 PB8A (io), N7 PB10B (io), N8 PB14B (io), N9 PB16B/VREF1_5 (io), P4 PB2A (io), P5 PB3A (io), P6 PB3B (io), P7 PB10A (io), P8 PB14A/BDQS14 (io), P9 PB16A/VREF2_5 (io), R3 PB4B (io), R4 PB4A (io), R5 PB6A/BDQS6 (io), R6 PB6B (io), R7 PB11A (io), R8 PB11B (io), R9 PB15A (io), R10 PB15B (io), T2 PB5A (io), T3 PB5B (io), T4 PB7A (io), T5 PB7B (io), T6 PB9A (io), T7 PB9B (io), T8 PB13A (io), T9 PB13B (io), T10 PB17A/PCLKT5_0 (io), T11 PB17B/PCLKC5_0 (io)
part G pins: F1 PL12B (io), F2 PL12A (io), G1 PL14B (io), G2 PL14A (io), G5 PL11A (io), H1 PL17B (io), H2 PL17A (io), H3 PL13B (io), H4 PL13A (io), H5 PL11B (io), J1 PL18B (io), J2 PL18A (io), J3 PL15B (io), J4 PL15A/LDQS15 (io), J5 PL16A (io), K1 PL20B/LLM0_PLLC_IN_A (io), K2 PL20A/LLM0_PLLT_IN_A (io), K5 PL16B (io), L1 PL21B/LLM0_PLLC_FB_A (io), L2 PL21A/LLM0_PLLT_FB_A (io), M1 PL22B (io), M2 PL22A (io), M3 PL24B (io), M4 PL24A/LDQS24 (io), N1 PL23A (io), N2 PL23B (io), N3 PL27A/VREF1_6 (io), N4 PL27B/VREF2_6 (io), P1 PL25A (io), P2 PL26A (io), P3 PL26B (io), R1 PL25B (io)
part H pins: B1 PL4A (io), C1 PL4B (io), C2 PL3B (io), C3 PL3A (io), D1 PL8B (io), D2 PL8A (io), D3 PL2B/VREF1_7 (io), D4 PL2A/VREF2_7 (io), E1 PL9A/PCLKT7_0 (io), E2 PL9B/PCLKC7_0 (io), E3 PL5A (io), E4 PL5B (io), F4 PL6A/LDQS6 (io), F5 PL6B (io), G3 PL7B (io), G4 PL7A (io)
part I pins: F3 XRES, K3 TDI (in), K4 TCK (in), K13 PROGRAMN (in), K14 DONE (io), K15 INITN (io), L3 TMS (in), L5 TDO (out), L12 CFG2 (in), L13 CFG0 (in), L14 CFG1 (in), L15 CCLK (io)
part J pins: B15 VCCAUX (power), E5 VCC (power), E8 VCC (power), E12 VCC (power), F6 VCC (power), F7 VCCIO0 (power), F8 VCCIO0 (power), F9 VCCIO1 (power), F10 VCCIO1 (power), F11 VCC (power), G6 VCCIO7 (power), G11 VCCIO2 (power), H6 VCCIO7 (power), H11 VCCIO2 (power), J6 VCCIO6 (power), J11 VCCIO3 (power), K6 VCCIO6 (power), K11 VCCIO3 (power), L4 VCCJ (power), L6 VCC (power), L7 VCCIO5 (power), L8 VCCIO5 (power), L9 VCCIO4 (power), L10 VCCIO4 (power), L11 VCC (power), M5 VCC (power), M9 VCC (power), M12 VCC (power), R2 VCCAUX (power)
part K pins: A1 GND (power), A16 GND (power), G7 GND (power), G8 GND (power), G9 GND (power), G10 GND (power), H7 GND (power), H8 GND (power), H9 GND (power), H10 GND (power), J7 GND (power), J8 GND (power), J9 GND (power), J10 GND (power), K7 GND (power), K8 GND (power), K9 GND (power), K10 GND (power), T1 GND (power), T16 GND (power)
part A text: BANK 0
part B text: BANK 1
part C text: BANK 2
part D text: BANK 3
part E text: BANK 4
part F text: BANK 5
part G text: BANK 6
part H text: BANK 7

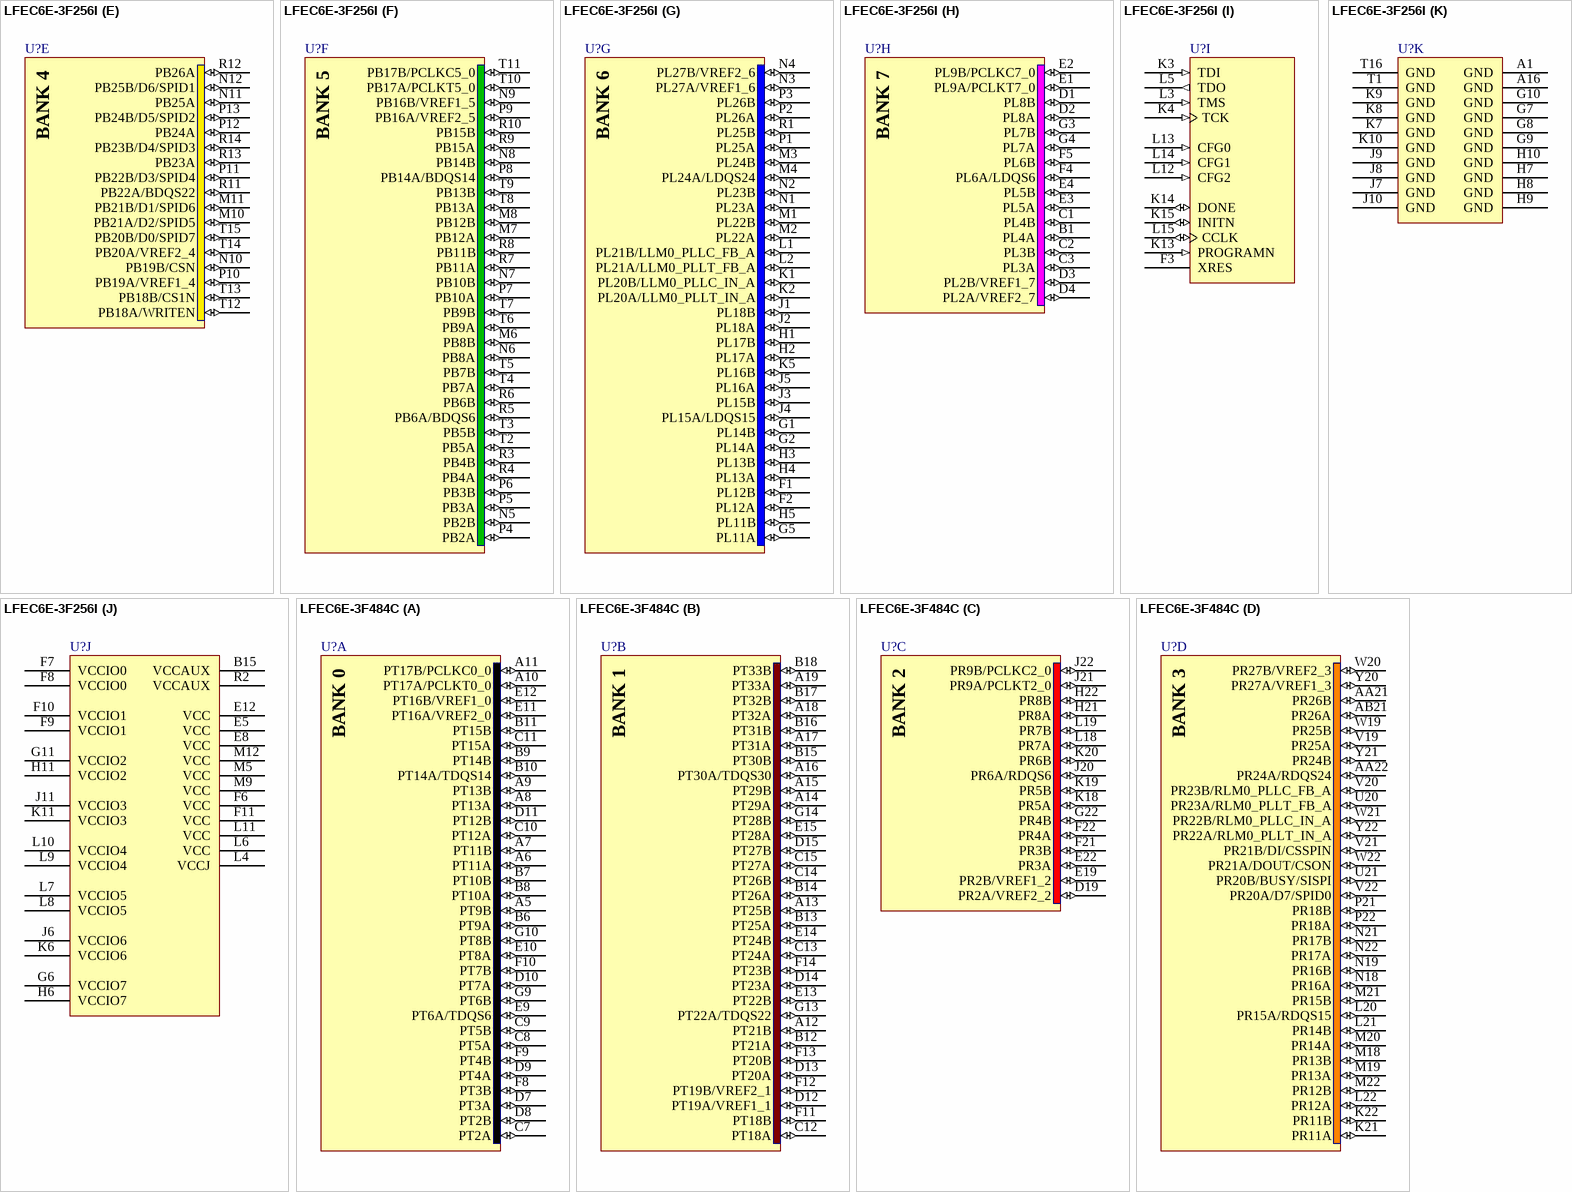
[diagram p49: symbols LFEC6E-3F256I to LFEC6E-3F484C]